# Altium integrated library microbuilder.IntLib: 530 symbols (part 5 of 7)
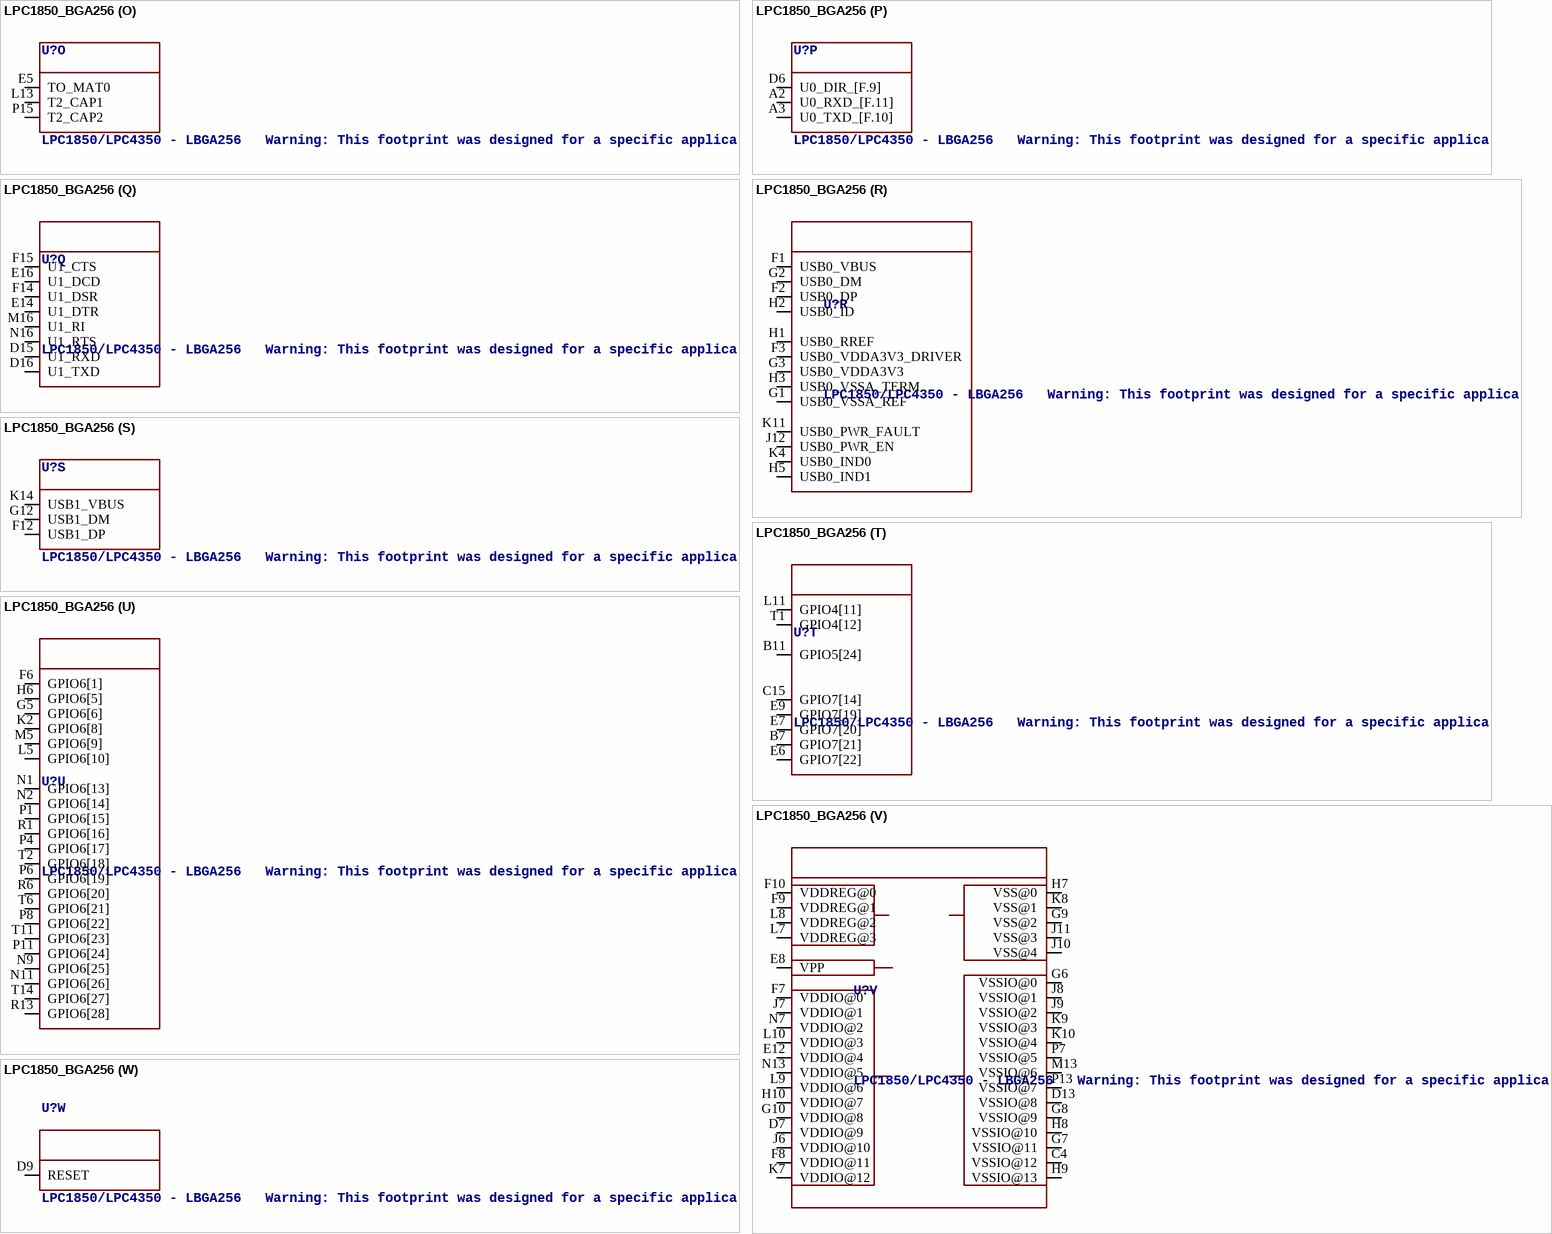
[diagram p56: symbol LPC1850_BGA256]

## LPC1850_BGA256
designator U?, comment LPC1850/LPC4350 - LBGA256   Warning: This footprint was designed for a specific application, and numerous choices have been made concering the PINMUX to make certain peripherals available at the expense of others.  These pin choices may not be appropriate in your own situation (for example, only one set of selection pins is broken out for the EMC rather than all four, although some pins on GPIO6 can be sacrificed to enable another memory device on the EMC using CS2).
footprint LBGA256_1.0MM
part A pins: A4 ADC1_2, A5 ADC1_6, B2 VSSA, B3 ADC1_5, B4 VDDA, B5 ADC1_3, C3 ADC1_1, C5 ADC1_7, C6 ADC1_4, E3 DAC, F5 ADC1_0
part B pins: C16 EMC_A4, D14 EMC_CLK23, E15 EMC_A3, F16 EMC_A2, G13 EMC_A23, G15 EMC_DQMOUT0, G16 EMC_A1, H12 EMC_CKEOUT0, H13 EMC_A14, H14 EMC_A9, H15 EMC_DQMOUT1, H16 EMC_A0, J13 EMC_A15, J15 EMC_DYCS0, J16 EMC_A8, K12 EMC_A21, K13 EMC_A22, K16 EMC_A10, L14 EMC_BLS1, M14 EMC_A20, M15 EMC_A11, N3 EMC_D12, N5 EMC_CLK01, N14 EMC_A19, N15 EMC_A12, P2 EMC_A5, P3 EMC_D13, P5 EMC_OE, P9 EMC_D8, P10 EMC_D9, P14 EMC_A18, P16 EMC_RAS, R2 EMC_A6, R3 EMC_A7, R4 EMC_D14, R5 EMC_CS0, R7 EMC_D1, R8 EMC_D3, R9 EMC_D5, R10 EMC_D6, R11 EMC_D7, R12 EMC_D11, R14 EMC_A16, R16 EMC_CAS, T3 EMC_BLS0, T4 EMC_WE, T5 EMC_D0, T7 EMC_D2, T8 EMC_D15, T9 EMC_D4, T13 EMC_D10, T15 EMC_A17, T16 EMC_A13
part C pins: A1 LCD_VD0_[4.1], A6 LCD_VD13_[B.6], A7 LCD_VD8_[7.5], A12 LCD_VD14_[B.5], A13 LCD_VD20_[B.3], A14 LCD_VD22_[B.1], A16 LCD_VD18_[7.2], B1 LCD_VD1_[4.4], B6 LCD_PWR_[7.7], B12 LCD_VD21_[B.2], B15 LCD_VD23_[B.0], B16 LCD_LE_[7.0], C1 LCD_ENBL_[4.6], C2 LCD_VD2_[4.3], C7 LCD_LP_[7.6], C8 LCD_VD16_[7.4], C13 LCD_VD17_[7.3], C14 LCD_VD19_[7.1], D2 LCD_FP_[4.5], D3 LCD_VD3_[4.2], E2 LCD_VD9_[4.8], G11 LCD_VD15_[B.4], H4 LCD_DCLK_[4.7], J1 LCD_VD6_[8.5], J2 LCD_VD7_[8.4], J3 LCD_VD12_[8.3], K1 LCD_VD4_[8.7], K3 LCD_VD5_[8.6], L2 LCD_VD11_[4.9], M3 LCD_VD10_[4.10]
part D pins: A8 RTCX1, A11 RTC_ALARM, B8 RTCX2, B10 VBAT
part E pins: L1 CGU_OUT0, L12 CGU_OUT1
part F pins: D4 ENET_RX_CLK, E4 ENET_MDC, F4 ENET_TX_EN, G4 ENET_TX_ER, L3 ENET_RXD1, M2 ENET_COL, M6 ENET_RXD2, M7 ENET_CRS, M8 ENET_MDIO, M9 ENET_TXD3, M10 ENET_TXD1, M11 ENET_TX_CLK, N4 ENET_RX_DV, N6 ENET_RX_ER, N8 ENET_RXD3, N10 ENET_TXD2, N12 ENET_TXD0, T12 ENET_RXD0
part G pins: D1 XTAL1, E1 XTAL2, T10 CLKOUT
part H pins: E13 I2C1_SCL, G14 I2C1_SDA, L15 I2C0_SCL, L16 I2C0_SDA
part I pins: D10 I2S0_RX_SCK, F11 I2S0_RX_SDA, F13 I2S0_TX_SCK, L6 I2S0_TX_SDA, M1 I2S0_TX_WS, R15 I2S0_RX_WS
part J pins: J4 TDI, J5 TCK/SWDCLK, K5 TDO/SWO, K6 TMS/SWDIO, L4 DBGEN, M4 TRST
part K pins: A9 WAKEUP0, A10 WAKEUP1, C9 WAKEUP2, D5 NMI_EXT, D8 WAKEUP3
part L pins: H11 QEI_PHA, J14 QEI_IDX, K15 QEI_PHB
part M pins: A15 SPIFI_SIO3, B13 SPIFI_MISO, B14 SPIFI_SCK, C10 SPIFI_CS, C11 SPIFI_MOSI, C12 SPIFI_SIO2
part N pins: D11 SSP0_MISO, D12 SSP0_SCK, E10 SSP0_MOSI, E11 SSP0_SSEL
part O pins: E5 TO_MAT0, L13 T2_CAP1, P15 T2_CAP2
part P pins: A2 U0_RXD_[F.11], A3 U0_TXD_[F.10], D6 U0_DIR_[F.9]
part Q pins: D15 U1_RXD, D16 U1_TXD, E14 U1_DTR, E16 U1_DCD, F14 U1_DSR, F15 U1_CTS, M16 U1_RI, N16 U1_RTS
part R pins: F1 USB0_VBUS, F2 USB0_DP, F3 USB0_VDDA3V3_DRIVER, G1 USB0_VSSA_REF, G2 USB0_DM, G3 USB0_VDDA3V3, H1 USB0_RREF, H2 USB0_ID, H3 USB0_VSSA_TERM, H5 USB0_IND1, J12 USB0_PWR_EN, K4 USB0_IND0, K11 USB0_PWR_FAULT
part S pins: F12 USB1_DP, G12 USB1_DM, K14 USB1_VBUS
part T pins: B7 GPIO7[21], B11 GPIO5[24], C15 GPIO7[14], E6 GPIO7[22], E7 GPIO7[20], E9 GPIO7[19], L11 GPIO4[11], T1 GPIO4[12]
part U pins: F6 GPIO6[1], G5 GPIO6[6], H6 GPIO6[5], K2 GPIO6[8], L5 GPIO6[10], M5 GPIO6[9], N1 GPIO6[13], N2 GPIO6[14], N9 GPIO6[25], N11 GPIO6[26], P1 GPIO6[15], P4 GPIO6[17], P6 GPIO6[19], P8 GPIO6[22], P11 GPIO6[24], R1 GPIO6[16], R6 GPIO6[20], R13 GPIO6[28], T2 GPIO6[18], T6 GPIO6[21], T11 GPIO6[23], T14 GPIO6[27]
part V pins: C4 VSSIO@12 (power), D7 VDDIO@9 (power), D13 VSSIO@8 (power), E8 VPP (power), E12 VDDIO@4 (power), F7 VDDIO@0 (power), F8 VDDIO@11 (power), F9 VDDREG@1 (power), F10 VDDREG@0 (power), G6 VSSIO@0 (power), G7 VSSIO@11 (power), G8 VSSIO@9 (power), G9 VSS@2 (power), G10 VDDIO@8 (power), H7 VSS@0 (power), H8 VSSIO@10 (power), H9 VSSIO@13 (power), H10 VDDIO@7 (power), J6 VDDIO@10 (power), J7 VDDIO@1 (power), J8 VSSIO@1 (power), J9 VSSIO@2 (power), J10 VSS@4 (power), J11 VSS@3 (power), K7 VDDIO@12 (power), K8 VSS@1 (power), K9 VSSIO@3 (power), K10 VSSIO@4 (power), L7 VDDREG@3 (power), L8 VDDREG@2 (power), L9 VDDIO@6 (power), L10 VDDIO@3 (power), M13 VSSIO@6 (power), N7 VDDIO@2 (power), N13 VDDIO@5 (power), P7 VSSIO@5 (power), P13 VSSIO@7 (power)
part W pins: D9 RESET

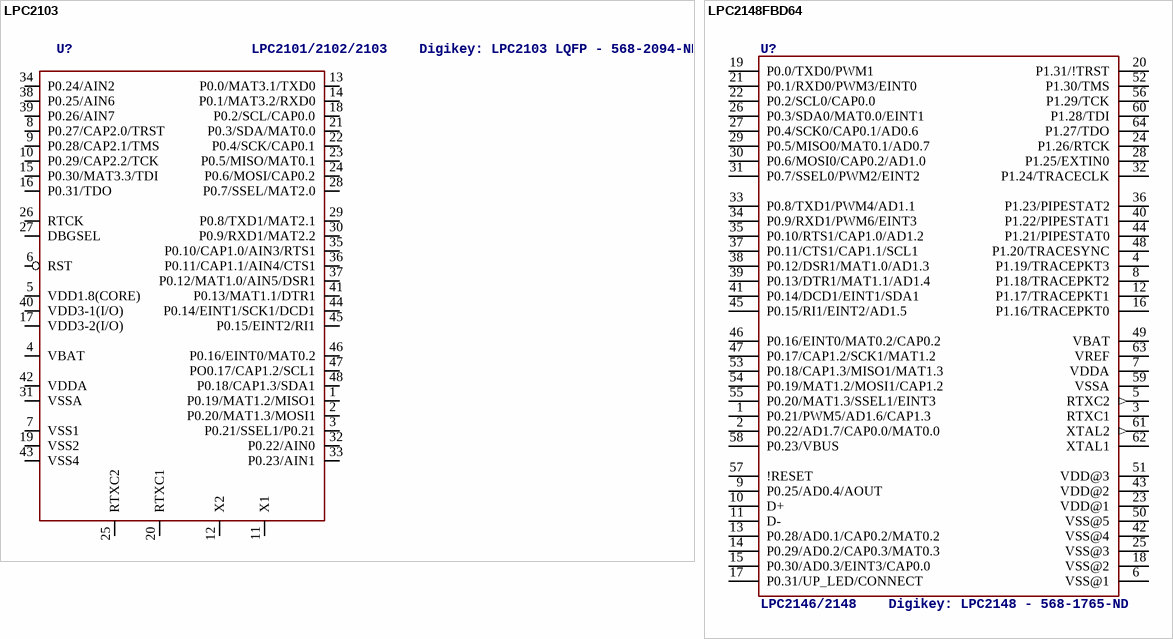
[diagram p39: symbols LPC2103 to LPC2148FBD64]

## LPC2103
designator U?, comment LPC2101/2102/2103    Digikey: LPC2103 LQFP - 568-2094-ND
footprint LQFP48
pins: 1 P0.19/MAT1.2/MISO1, 2 P0.20/MAT1.3/MOSI1, 3 P0.21/SSEL1/P0.21, 4 VBAT, 5 VDD1.8(CORE), 6 RST, 7 VSS1, 8 P0.27/CAP2.0/TRST, 9 P0.28/CAP2.1/TMS, 10 P0.29/CAP2.2/TCK, 11 X1, 12 X2, 13 P0.0/MAT3.1/TXD0, 14 P0.1/MAT3.2/RXD0, 15 P0.30/MAT3.3/TDI, 16 P0.31/TDO, 17 VDD3-2(I/O), 18 P0.2/SCL/CAP0.0, 19 VSS2, 20 RTXC1, 21 P0.3/SDA/MAT0.0, 22 P0.4/SCK/CAP0.1, 23 P0.5/MISO/MAT0.1, 24 P0.6/MOSI/CAP0.2, 25 RTXC2, 26 RTCK, 27 DBGSEL, 28 P0.7/SSEL/MAT2.0, 29 P0.8/TXD1/MAT2.1, 30 P0.9/RXD1/MAT2.2, 31 VSSA, 32 P0.22/AIN0, 33 P0.23/AIN1, 34 P0.24/AIN2, 35 P0.10/CAP1.0/AIN3/RTS1, 36 P0.11/CAP1.1/AIN4/CTS1, 37 P0.12/MAT1.0/AIN5/DSR1, 38 P0.25/AIN6, 39 P0.26/AIN7, 40 VDD3-1(I/O), 41 P0.13/MAT1.1/DTR1, 42 VDDA, 43 VSS4, 44 P0.14/EINT1/SCK1/DCD1, 45 P0.15/EINT2/RI1, 46 P0.16/EINT0/MAT0.2, 47 PO0.17/CAP1.2/SCL1, 48 P0.18/CAP1.3/SDA1

## LPC2148FBD64
designator U?, comment LPC2146/2148    Digikey: LPC2148 - 568-1765-ND
footprint LQFP64
pins: 1 P0.21/PWM5/AD1.6/CAP1.3, 2 P0.22/AD1.7/CAP0.0/MAT0.0, 3 RTXC1, 4 P1.19/TRACEPKT3, 5 RTXC2 (out), 6 VSS@1 (power), 7 VDDA (power), 8 P1.18/TRACEPKT2, 9 P0.25/AD0.4/AOUT, 10 D+, 11 D-, 12 P1.17/TRACEPKT1, 13 P0.28/AD0.1/CAP0.2/MAT0.2, 14 P0.29/AD0.2/CAP0.3/MAT0.3, 15 P0.30/AD0.3/EINT3/CAP0.0, 16 P1.16/TRACEPKT0, 17 P0.31/UP_LED/CONNECT, 18 VSS@2 (power), 19 P0.0/TXD0/PWM1, 20 P1.31/!TRST, 21 P0.1/RXD0/PWM3/EINT0, 22 P0.2/SCL0/CAP0.0, 23 VDD@1 (power), 24 P1.26/RTCK, 25 VSS@3 (power), 26 P0.3/SDA0/MAT0.0/EINT1, 27 P0.4/SCK0/CAP0.1/AD0.6, 28 P1.25/EXTIN0, 29 P0.5/MISO0/MAT0.1/AD0.7, 30 P0.6/MOSI0/CAP0.2/AD1.0, 31 P0.7/SSEL0/PWM2/EINT2, 32 P1.24/TRACECLK, 33 P0.8/TXD1/PWM4/AD1.1, 34 P0.9/RXD1/PWM6/EINT3, 35 P0.10/RTS1/CAP1.0/AD1.2, 36 P1.23/PIPESTAT2, 37 P0.11/CTS1/CAP1.1/SCL1, 38 P0.12/DSR1/MAT1.0/AD1.3, 39 P0.13/DTR1/MAT1.1/AD1.4, 40 P1.22/PIPESTAT1, 41 P0.14/DCD1/EINT1/SDA1, 42 VSS@4 (power), 43 VDD@2 (power), 44 P1.21/PIPESTAT0, 45 P0.15/RI1/EINT2/AD1.5, 46 P0.16/EINT0/MAT0.2/CAP0.2, 47 P0.17/CAP1.2/SCK1/MAT1.2, 48 P1.20/TRACESYNC, 49 VBAT (power), 50 VSS@5 (power), 51 VDD@3 (power), 52 P1.30/TMS, 53 P0.18/CAP1.3/MISO1/MAT1.3, 54 P0.19/MAT1.2/MOSI1/CAP1.2, 55 P0.20/MAT1.3/SSEL1/EINT3, 56 P1.29/TCK, 57 !RESET, 58 P0.23/VBUS, 59 VSSA (power), 60 P1.28/TDI, 61 XTAL2 (out), 62 XTAL1, 63 VREF, 64 P1.27/TDO

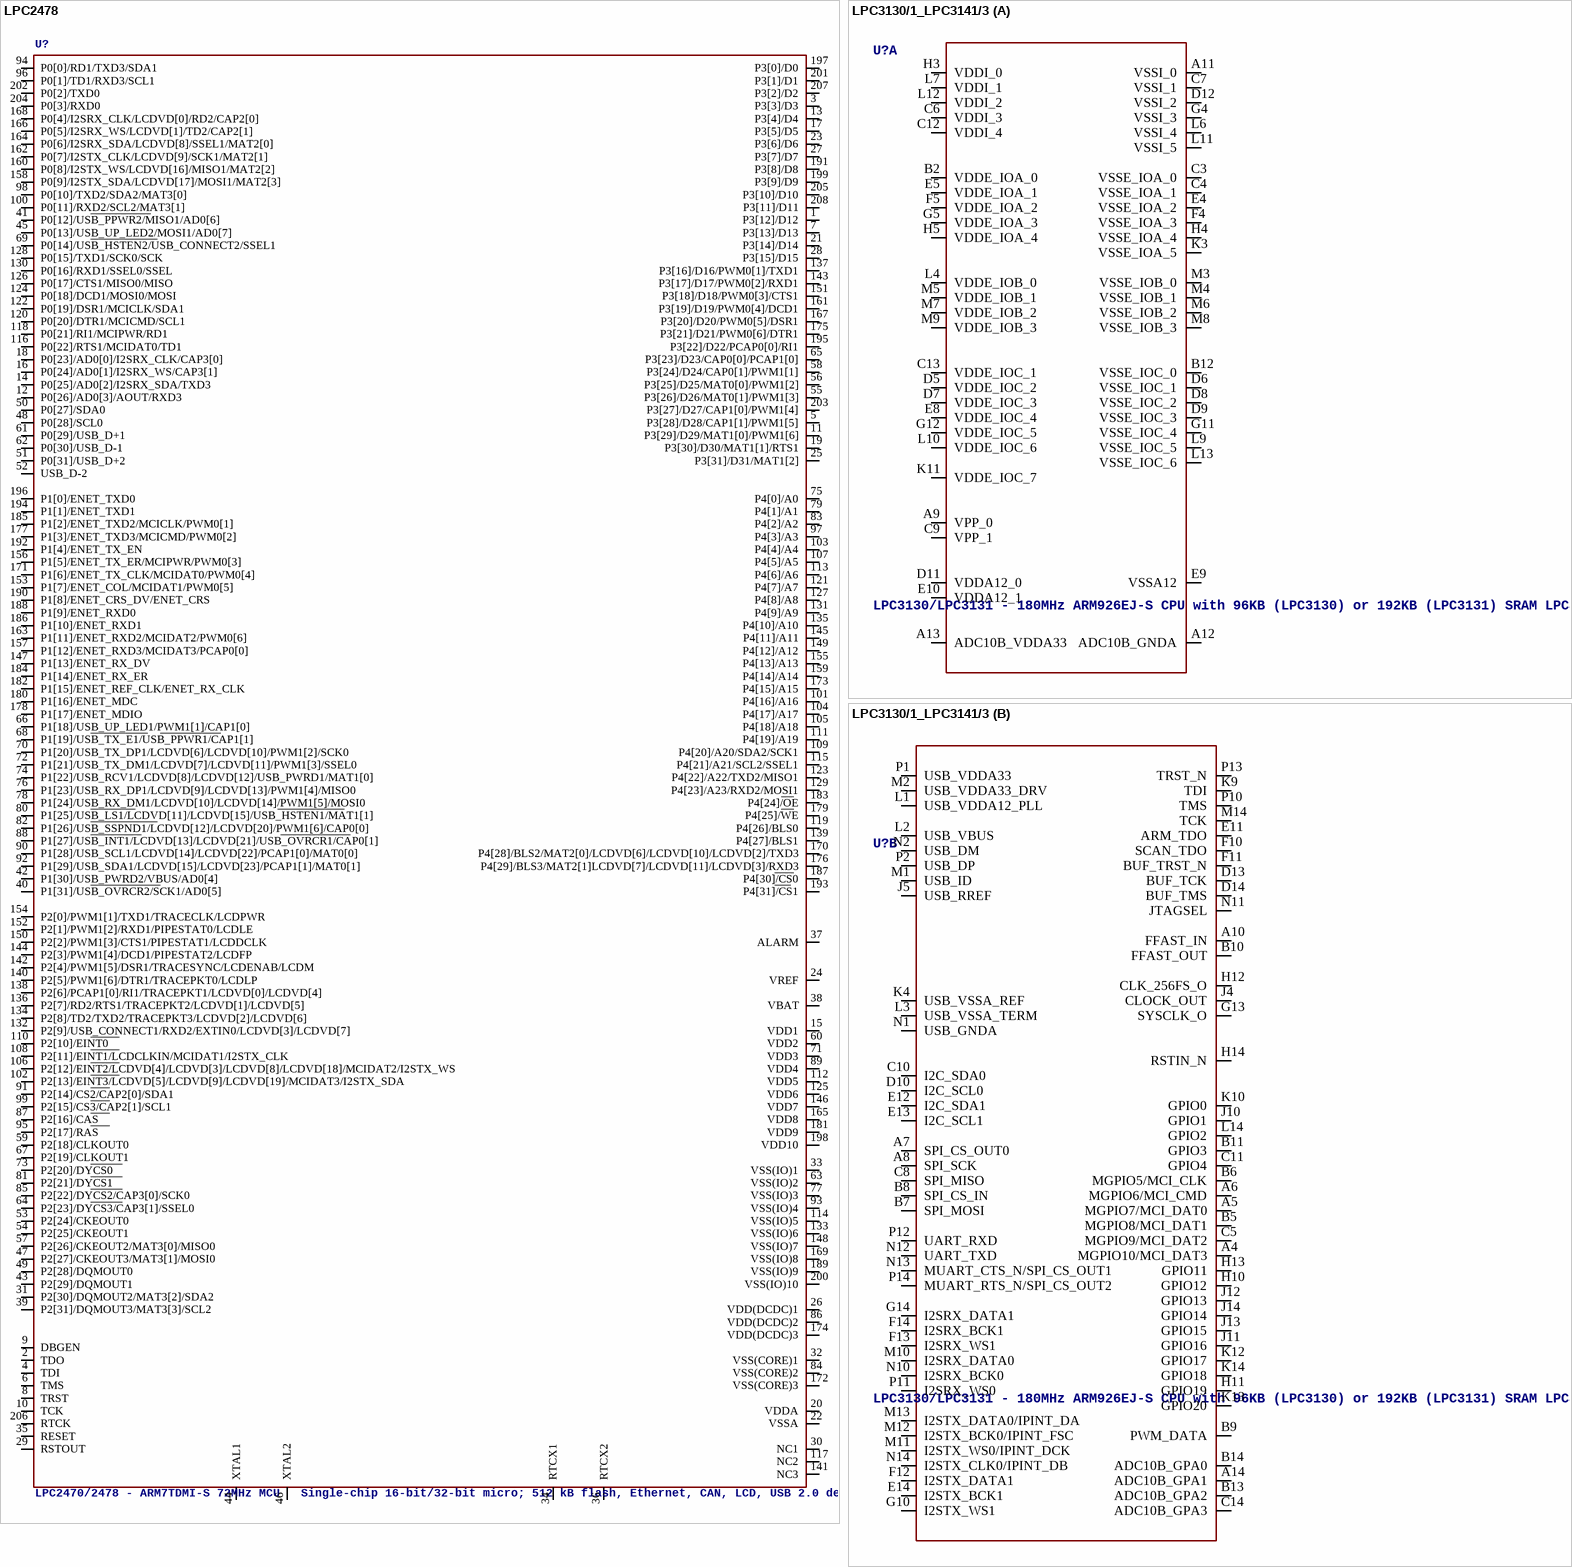
[diagram p40: symbols LPC2478 to LPC3130/1_LPC3141/3]

## LPC2478
designator U?, comment LPC2470/2478 - ARM7TDMI-S 72MHz MCU   Single-chip 16-bit/32-bit micro; 512 kB flash, Ethernet, CAN, LCD, USB 2.0 device/host/OTG, external memory interface   Digikey: 568-4363-ND
footprint LQFP208
pins: 1 P3[12]/D12, 2 TDO, 3 P3[3]/D3, 4 TDI, 5 P3[28]/D28/CAP1[1]/PWM1[5], 6 TMS, 7 P3[13]/D13, 8 TRST, 9 DBGEN, 10 TCK, 11 P3[29]/D29/MAT1[0]/PWM1[6], 12 P0[26]/AD0[3]/AOUT/RXD3, 13 P3[4]/D4, 14 P0[25]/AD0[2]/I2SRX_SDA/TXD3, 15 VDD1, 16 P0[24]/AD0[1]/I2SRX_WS/CAP3[1], 17 P3[5]/D5, 18 P0[23]/AD0[0]/I2SRX_CLK/CAP3[0], 19 P3[30]/D30/MAT1[1]/RTS1, 20 VDDA, 21 P3[14]/D14, 22 VSSA, 23 P3[6]/D6, 24 VREF, 25 P3[31]/D31/MAT1[2], 26 VDD(DCDC)1, 27 P3[7]/D7, 28 P3[15]/D15, 29 RSTOUT, 30 NC1, 31 P2[30]/DQMOUT2/MAT3[2]/SDA2, 32 VSS(CORE)1, 33 VSS(IO)1, 34 RTCX1, 35 RESET, 36 RTCX2, 37 ALARM, 38 VBAT, 39 P2[31]/DQMOUT3/MAT3[3]/SCL2, 40 P1[31]/USB_OVRCR2/SCK1/AD0[5], 41 P0[12]/USB_PPWR2/MISO1/AD0[6], 42 P1[30]/USB_PWRD2/VBUS/AD0[4], 43 P2[29]/DQMOUT1, 44 XTAL1, 45 P0[13]/USB_UP_LED2/MOSI1/AD0[7], 46 XTAL2, 47 P2[27]/CKEOUT3/MAT3[1]/MOSI0, 48 P0[28]/SCL0, 49 P2[28]/DQMOUT0, 50 P0[27]/SDA0, 51 P0[31]/USB_D+2, 52 USB_D-2, 53 P2[24]/CKEOUT0, 54 P2[25]/CKEOUT1, 55 P3[26]/D26/MAT0[1]/PWM1[3], 56 P3[25]/D25/MAT0[0]/PWM1[2], 57 P2[26]/CKEOUT2/MAT3[0]/MISO0, 58 P3[24]/D24/CAP0[1]/PWM1[1], 59 P2[18]/CLKOUT0, 60 VDD2, 61 P0[29]/USB_D+1, 62 P0[30]/USB_D-1, 63 VSS(IO)2, 64 P2[23]/DYCS3/CAP3[1]/SSEL0, 65 P3[23]/D23/CAP0[0]/PCAP1[0], 66 P1[18]/USB_UP_LED1/PWM1[1]/CAP1[0], 67 P2[19]/CLKOUT1, 68 P1[19]/USB_TX_E1/USB_PPWR1/CAP1[1], 69 P0[14]/USB_HSTEN2/USB_CONNECT2/SSEL1, 70 P1[20]/USB_TX_DP1/LCDVD[6]/LCDVD[10]/PWM1[2]/SCK0, 71 VDD3, 72 P1[21]/USB_TX_DM1/LCDVD[7]/LCDVD[11]/PWM1[3]/SSEL0, 73 P2[20]/DYCS0, 74 P1[22]/USB_RCV1/LCDVD[8]/LCDVD[12]/USB_PWRD1/MAT1[0], 75 P4[0]/A0, 76 P1[23]/USB_RX_DP1/LCDVD[9]/LCDVD[13]/PWM1[4]/MISO0, 77 VSS(IO)3, 78 P1[24]/USB_RX_DM1/LCDVD[10]/LCDVD[14]/PWM1[5]/MOSI0, 79 P4[1]/A1, 80 P1[25]/USB_LS1/LCDVD[11]/LCDVD[15]/USB_HSTEN1/MAT1[1], 81 P2[21]/DYCS1, 82 P1[26]/USB_SSPND1/LCDVD[12]/LCDVD[20]/PWM1[6]/CAP0[0], 83 P4[2]/A2, 84 VSS(CORE)2, 85 P2[22]/DYCS2/CAP3[0]/SCK0, 86 VDD(DCDC)2, 87 P2[16]/CAS, 88 P1[27]/USB_INT1/LCDVD[13]/LCDVD[21]/USB_OVRCR1/CAP0[1], 89 VDD4, 90 P1[28]/USB_SCL1/LCDVD[14]/LCDVD[22]/PCAP1[0]/MAT0[0], 91 P2[14]/CS2/CAP2[0]/SDA1, 92 P1[29]/USB_SDA1/LCDVD[15]/LCDVD[23]/PCAP1[1]/MAT0[1], 93 VSS(IO)4, 94 P0[0]/RD1/TXD3/SDA1, 95 P2[17]/RAS, 96 P0[1]/TD1/RXD3/SCL1, 97 P4[3]/A3, 98 P0[10]/TXD2/SDA2/MAT3[0], 99 P2[15]/CS3/CAP2[1]/SCL1, 100 P0[11]/RXD2/SCL2/MAT3[1], 101 P4[16]/A16, 102 P2[13]/EINT3/LCDVD[5]/LCDVD[9]/LCDVD[19]/MCIDAT3/I2STX_SDA, 103 P4[4]/A4, 104 P4[17]/A17, 105 P4[18]/A18, 106 P2[12]/EINT2/LCDVD[4]/LCDVD[3]/LCDVD[8]/LCDVD[18]/MCIDAT2/I2STX_WS, 107 P4[5]/A5, 108 P2[11]/EINT1/LCDCLKIN/MCIDAT1/I2STX_CLK, 109 P4[20]/A20/SDA2/SCK1, 110 P2[10]/EINT0, 111 P4[19]/A19, 112 VDD5, 113 P4[6]/A6, 114 VSS(IO)5, 115 P4[21]/A21/SCL2/SSEL1, 116 P0[22]/RTS1/MCIDAT0/TD1, 117 NC2, 118 P0[21]/RI1/MCIPWR/RD1, 119 P4[26]/BLS0, 120 P0[20]/DTR1/MCICMD/SCL1, 121 P4[7]/A7, 122 P0[19]/DSR1/MCICLK/SDA1, 123 P4[22]/A22/TXD2/MISO1, 124 P0[18]/DCD1/MOSI0/MOSI, 125 VDD6, 126 P0[17]/CTS1/MISO0/MISO, 127 P4[8]/A8, 128 P0[15]/TXD1/SCK0/SCK, 129 P4[23]/A23/RXD2/MOSI1, 130 P0[16]/RXD1/SSEL0/SSEL, 131 P4[9]/A9, 132 P2[9]/USB_CONNECT1/RXD2/EXTIN0/LCDVD[3]/LCDVD[7], 133 VSS(IO)6, 134 P2[8]/TD2/TXD2/TRACEPKT3/LCDVD[2]/LCDVD[6], 135 P4[10]/A10, 136 P2[7]/RD2/RTS1/TRACEPKT2/LCDVD[1]/LCDVD[5], 137 P3[16]/D16/PWM0[1]/TXD1, 138 P2[6]/PCAP1[0]/RI1/TRACEPKT1/LCDVD[0]/LCDVD[4], 139 P4[27]/BLS1, 140 P2[5]/PWM1[6]/DTR1/TRACEPKT0/LCDLP, 141 NC3, 142 P2[4]/PWM1[5]/DSR1/TRACESYNC/LCDENAB/LCDM, 143 P3[17]/D17/PWM0[2]/RXD1, 144 P2[3]/PWM1[4]/DCD1/PIPESTAT2/LCDFP, 145 P4[11]/A11, 146 VDD7, 147 P1[13]/ENET_RX_DV, 148 VSS(IO)7, 149 P4[12]/A12, 150 P2[2]/PWM1[3]/CTS1/PIPESTAT1/LCDDCLK, 151 P3[18]/D18/PWM0[3]/CTS1, 152 P2[1]/PWM1[2]/RXD1/PIPESTAT0/LCDLE, 153 P1[7]/ENET_COL/MCIDAT1/PWM0[5], 154 P2[0]/PWM1[1]/TXD1/TRACECLK/LCDPWR, 155 P4[13]/A13, 156 P1[5]/ENET_TX_ER/MCIPWR/PWM0[3], 157 P1[12]/ENET_RXD3/MCIDAT3/PCAP0[0], 158 P0[9]/I2STX_SDA/LCDVD[17]/MOSI1/MAT2[3], 159 P4[14]/A14, 160 P0[8]/I2STX_WS/LCDVD[16]/MISO1/MAT2[2], 161 P3[19]/D19/PWM0[4]/DCD1, 162 P0[7]/I2STX_CLK/LCDVD[9]/SCK1/MAT2[1], 163 P1[11]/ENET_RXD2/MCIDAT2/PWM0[6], 164 P0[6]/I2SRX_SDA/LCDVD[8]/SSEL1/MAT2[0], 165 VDD8, 166 P0[5]/I2SRX_WS/LCDVD[1]/TD2/CAP2[1], 167 P3[20]/D20/PWM0[5]/DSR1, 168 P0[4]/I2SRX_CLK/LCDVD[0]/RD2/CAP2[0], 169 VSS(IO)8, 170 P4[28]/BLS2/MAT2[0]/LCDVD[6]/LCDVD[10]/LCDVD[2]/TXD3, 171 P1[6]/ENET_TX_CLK/MCIDAT0/PWM0[4], 172 VSS(CORE)3, 173 P4[15]/A15, 174 VDD(DCDC)3, 175 P3[21]/D21/PWM0[6]/DTR1, 176 P4[29]/BLS3/MAT2[1]LCDVD[7]/LCDVD[11]/LCDVD[3]/RXD3, 177 P1[3]/ENET_TXD3/MCICMD/PWM0[2], 178 P1[17]/ENET_MDIO, 179 P4[25]/WE, 180 P1[16]/ENET_MDC, 181 VDD9, 182 P1[15]/ENET_REF_CLK/ENET_RX_CLK, 183 P4[24]/OE, 184 P1[14]/ENET_RX_ER, 185 P1[2]/ENET_TXD2/MCICLK/PWM0[1], 186 P1[10]/ENET_RXD1, 187 P4[30]/CS0, 188 P1[9]/ENET_RXD0, 189 VSS(IO)9, 190 P1[8]/ENET_CRS_DV/ENET_CRS, 191 P3[8]/D8, 192 P1[4]/ENET_TX_EN, 193 P4[31]/CS1, 194 P1[1]/ENET_TXD1, 195 P3[22]/D22/PCAP0[0]/RI1, 196 P1[0]/ENET_TXD0, 197 P3[0]/D0, 198 VDD10, 199 P3[9]/D9, 200 VSS(IO)10, 201 P3[1]/D1, 202 P0[2]/TXD0, 203 P3[27]/D27/CAP1[0]/PWM1[4], 204 P0[3]/RXD0, 205 P3[10]/D10, 206 RTCK, 207 P3[2]/D2, 208 P3[11]/D11

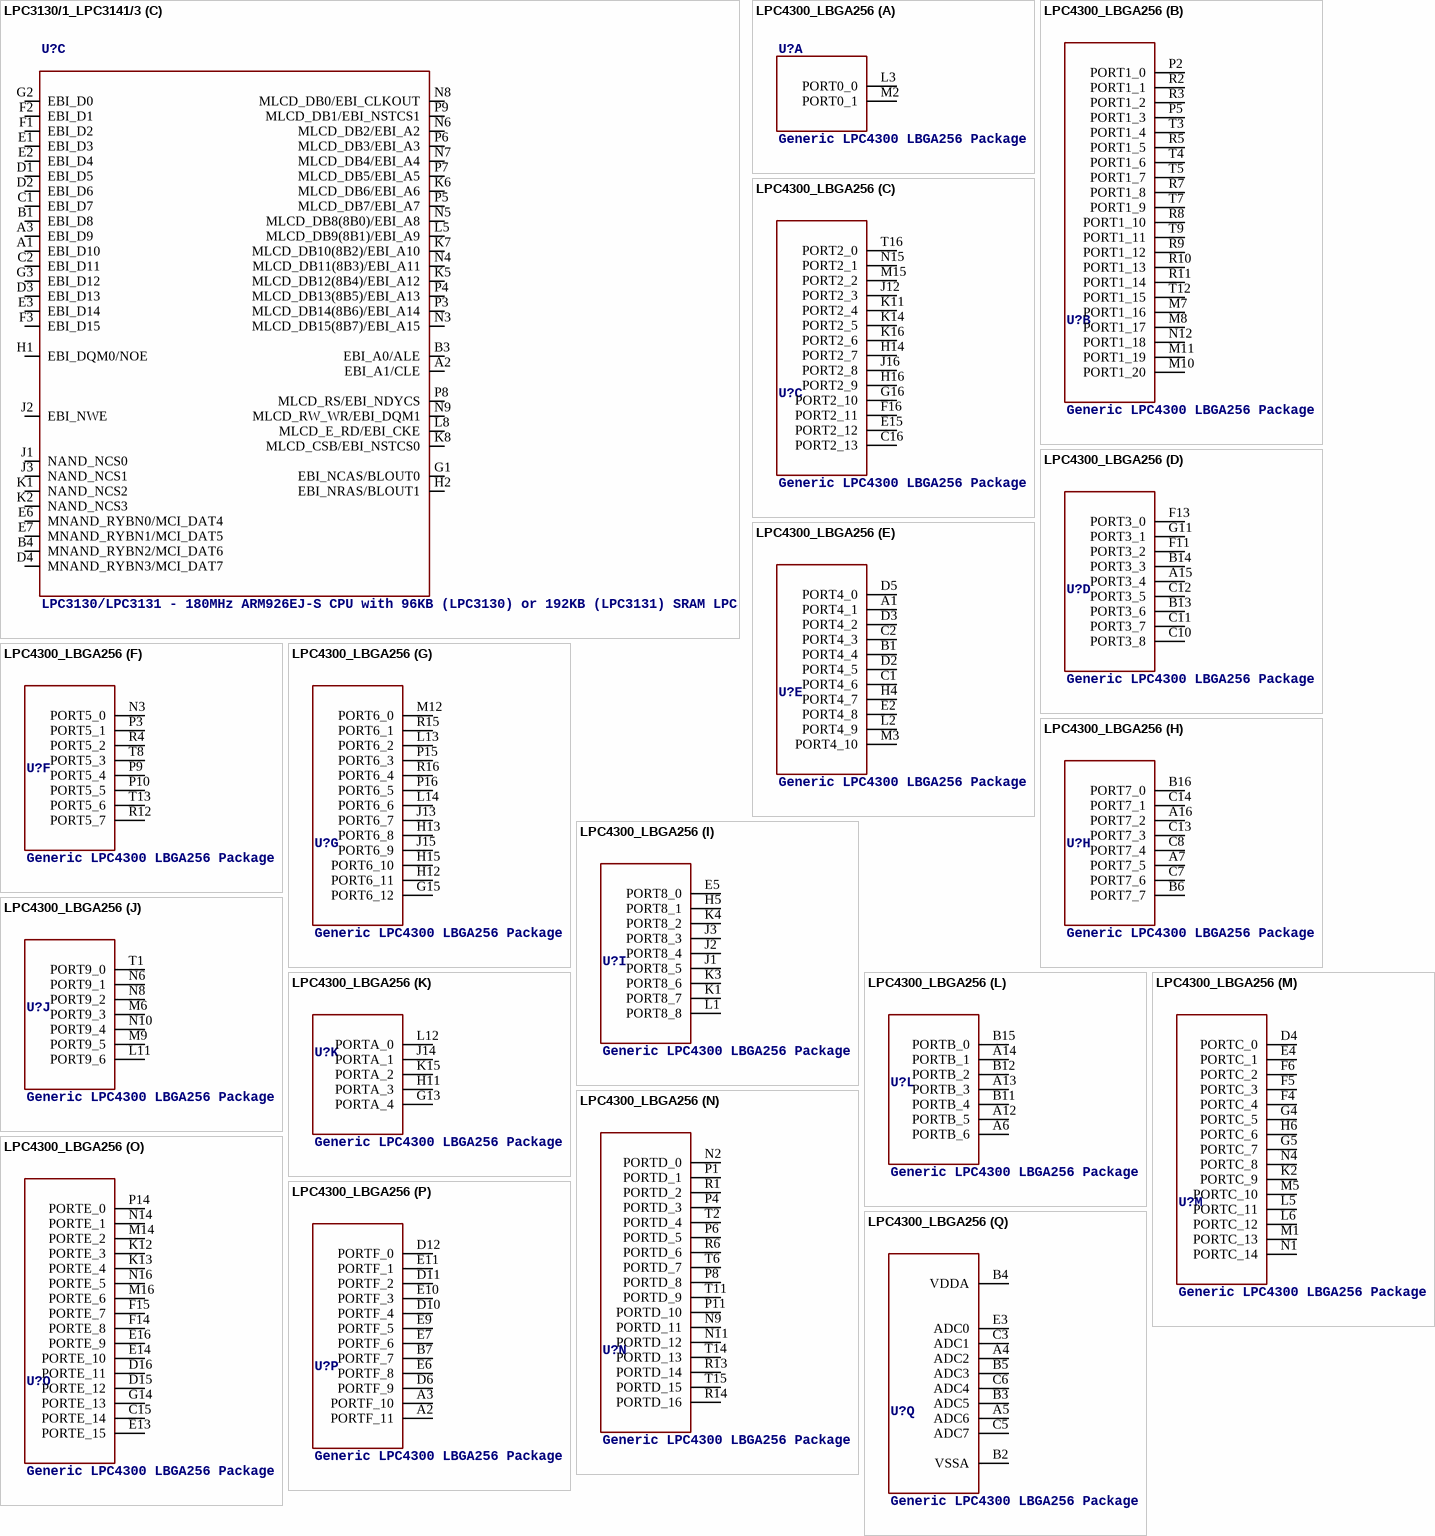
[diagram p41: symbols LPC3130/1_LPC3141/3 to LPC4300_LBGA256]

## LPC3130/1_LPC3141/3
designator U?, comment LPC3130/LPC3131 - 180MHz ARM926EJ-S CPU with 96KB (LPC3130) or 192KB (LPC3131) SRAM LPC3141 - 270MHz ARM926EJ-S CPU with 192KB SRAM LPC3143 - 270MHz ARM926EJ-S CPU with 192KB SRAM and AES decryption engine/128-bit unique ID (LPC3143 only)
footprint TFBGA180_0.8
part A pins: A9 VPP_0 (power), A11 VSSI_0 (power), A12 ADC10B_GNDA (power), A13 ADC10B_VDDA33 (power), B2 VDDE_IOA_0 (power), B12 VSSE_IOC_0 (power), C3 VSSE_IOA_0 (power), C4 VSSE_IOA_1 (power), C6 VDDI_3 (power), C7 VSSI_1 (power), C9 VPP_1 (power), C12 VDDI_4 (power), C13 VDDE_IOC_1 (power), D5 VDDE_IOC_2 (power), D6 VSSE_IOC_1 (power), D7 VDDE_IOC_3 (power), D8 VSSE_IOC_2 (power), D9 VSSE_IOC_3 (power), D11 VDDA12_0 (power), D12 VSSI_2 (power), E4 VSSE_IOA_2 (power), E5 VDDE_IOA_1 (power), E8 VDDE_IOC_4 (power), E9 VSSA12 (power), E10 VDDA12_1 (power), F4 VSSE_IOA_3 (power), F5 VDDE_IOA_2 (power), G4 VSSI_3 (power), G5 VDDE_IOA_3 (power), G11 VSSE_IOC_4 (power), G12 VDDE_IOC_5 (power), H3 VDDI_0 (power), H4 VSSE_IOA_4 (power), H5 VDDE_IOA_4 (power), K3 VSSE_IOA_5 (power), K11 VDDE_IOC_7 (power), L4 VDDE_IOB_0 (power), L6 VSSI_4 (power), L7 VDDI_1 (power), L9 VSSE_IOC_5 (power), L10 VDDE_IOC_6 (power), L11 VSSI_5 (power), L12 VDDI_2 (power), L13 VSSE_IOC_6 (power), M3 VSSE_IOB_0 (power), M4 VSSE_IOB_1 (power), M5 VDDE_IOB_1 (power), M6 VSSE_IOB_2 (power), M7 VDDE_IOB_2 (power), M8 VSSE_IOB_3 (power), M9 VDDE_IOB_3 (power)
part B pins: A4 MGPIO10/MCI_DAT3, A5 MGPIO7/MCI_DAT0, A6 MGPIO6/MCI_CMD, A7 SPI_CS_OUT0, A8 SPI_SCK, A10 FFAST_IN, A14 ADC10B_GPA1, B5 MGPIO8/MCI_DAT1, B6 MGPIO5/MCI_CLK, B7 SPI_MOSI, B8 SPI_CS_IN, B9 PWM_DATA, B10 FFAST_OUT, B11 GPIO3, B13 ADC10B_GPA2, B14 ADC10B_GPA0, C5 MGPIO9/MCI_DAT2, C8 SPI_MISO, C10 I2C_SDA0, C11 GPIO4, C14 ADC10B_GPA3, D10 I2C_SCL0, D13 BUF_TCK, D14 BUF_TMS, E11 ARM_TDO, E12 I2C_SDA1, E13 I2C_SCL1, E14 I2STX_BCK1, F10 SCAN_TDO, F11 BUF_TRST_N, F12 I2STX_DATA1, F13 I2SRX_WS1, F14 I2SRX_BCK1, G10 I2STX_WS1, G13 SYSCLK_O, G14 I2SRX_DATA1, H10 GPIO12, H11 GPIO19, H12 CLK_256FS_O, H13 GPIO11, H14 RSTIN_N, J4 CLOCK_OUT, J5 USB_RREF, J10 GPIO1, J11 GPIO16, J12 GPIO13, J13 GPIO15, J14 GPIO14, K4 USB_VSSA_REF, K9 TDI, K10 GPIO0, K12 GPIO17, K13 GPIO20, K14 GPIO18, L1 USB_VDDA12_PLL, L2 USB_VBUS, L3 USB_VSSA_TERM, L14 GPIO2, M1 USB_ID, M2 USB_VDDA33_DRV, M10 I2SRX_DATA0, M11 I2STX_WS0/IPINT_DCK, M12 I2STX_BCK0/IPINT_FSC, M13 I2STX_DATA0/IPINT_DA, M14 TCK, N1 USB_GNDA, N2 USB_DM, N10 I2SRX_BCK0, N11 JTAGSEL, N12 UART_TXD, N13 MUART_CTS_N/SPI_CS_OUT1, N14 I2STX_CLK0/IPINT_DB, P1 USB_VDDA33, P2 USB_DP, P10 TMS, P11 I2SRX_WS0, P12 UART_RXD, P13 TRST_N, P14 MUART_RTS_N/SPI_CS_OUT2
part C pins: A1 EBI_D10, A2 EBI_A1/CLE, A3 EBI_D9, B1 EBI_D8, B3 EBI_A0/ALE, B4 MNAND_RYBN2/MCI_DAT6, C1 EBI_D7, C2 EBI_D11, D1 EBI_D5, D2 EBI_D6, D3 EBI_D13, D4 MNAND_RYBN3/MCI_DAT7, E1 EBI_D3, E2 EBI_D4, E3 EBI_D14, E6 MNAND_RYBN0/MCI_DAT4, E7 MNAND_RYBN1/MCI_DAT5, F1 EBI_D2, F2 EBI_D1, F3 EBI_D15, G1 EBI_NCAS/BLOUT0, G2 EBI_D0, G3 EBI_D12, H1 EBI_DQM0/NOE, H2 EBI_NRAS/BLOUT1, J1 NAND_NCS0, J2 EBI_NWE, J3 NAND_NCS1, K1 NAND_NCS2, K2 NAND_NCS3, K5 MLCD_DB12(8B4)/EBI_A12, K6 MLCD_DB6/EBI_A6, K7 MLCD_DB10(8B2)/EBI_A10, K8 MLCD_CSB/EBI_NSTCS0, L5 MLCD_DB9(8B1)/EBI_A9, L8 MLCD_E_RD/EBI_CKE, N3 MLCD_DB15(8B7)/EBI_A15, N4 MLCD_DB11(8B3)/EBI_A11, N5 MLCD_DB8(8B0)/EBI_A8, N6 MLCD_DB2/EBI_A2, N7 MLCD_DB4/EBI_A4, N8 MLCD_DB0/EBI_CLKOUT, N9 MLCD_RW_WR/EBI_DQM1, P3 MLCD_DB14(8B6)/EBI_A14, P4 MLCD_DB13(8B5)/EBI_A13, P5 MLCD_DB7/EBI_A7, P6 MLCD_DB3/EBI_A3, P7 MLCD_DB5/EBI_A5, P8 MLCD_RS/EBI_NDYCS, P9 MLCD_DB1/EBI_NSTCS1

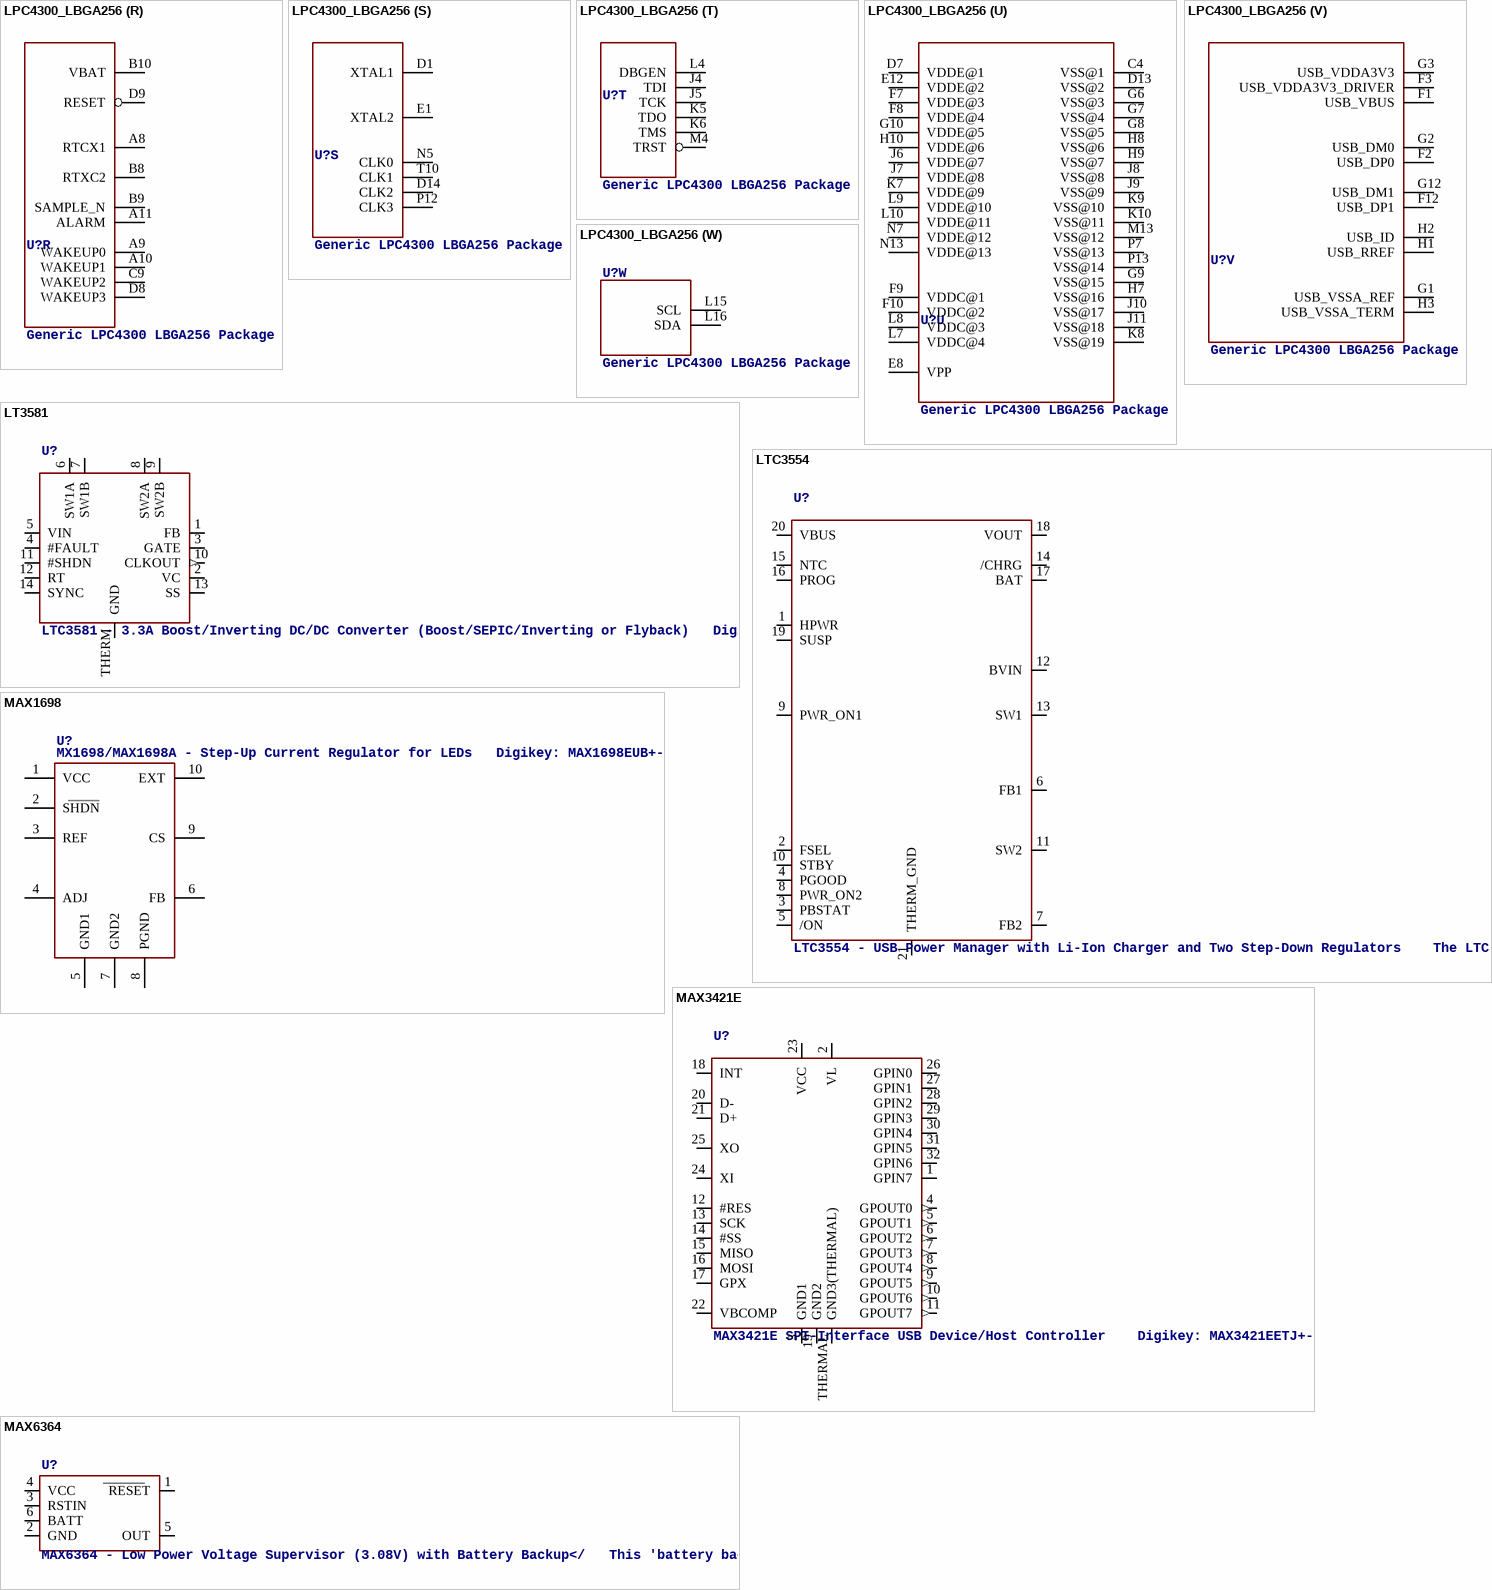
[diagram p42: symbols LPC4300_LBGA256 to MAX6364]

## LPC4300_LBGA256
designator U?, comment Generic LPC4300 LBGA256 Package
footprint LBGA256_1.0MM
part A pins: L3 PORT0_0, M2 PORT0_1
part B pins: M7 PORT1_16, M8 PORT1_17, M10 PORT1_20, M11 PORT1_19, N12 PORT1_18, P2 PORT1_0, P5 PORT1_3, R2 PORT1_1, R3 PORT1_2, R5 PORT1_5, R7 PORT1_8, R8 PORT1_10, R9 PORT1_12, R10 PORT1_13, R11 PORT1_14, T3 PORT1_4, T4 PORT1_6, T5 PORT1_7, T7 PORT1_9, T9 PORT1_11, T12 PORT1_15
part C pins: C16 PORT2_13, E15 PORT2_12, F16 PORT2_11, G16 PORT2_10, H14 PORT2_7, H16 PORT2_9, J12 PORT2_3, J16 PORT2_8, K11 PORT2_4, K14 PORT2_5, K16 PORT2_6, M15 PORT2_2, N15 PORT2_1, T16 PORT2_0
part D pins: A15 PORT3_4, B13 PORT3_6, B14 PORT3_3, C10 PORT3_8, C11 PORT3_7, C12 PORT3_5, F11 PORT3_2, F13 PORT3_0, G11 PORT3_1
part E pins: A1 PORT4_1, B1 PORT4_4, C1 PORT4_6, C2 PORT4_3, D2 PORT4_5, D3 PORT4_2, D5 PORT4_0, E2 PORT4_8, H4 PORT4_7, L2 PORT4_9, M3 PORT4_10
part F pins: N3 PORT5_0, P3 PORT5_1, P9 PORT5_4, P10 PORT5_5, R4 PORT5_2, R12 PORT5_7, T8 PORT5_3, T13 PORT5_6
part G pins: G15 PORT6_12, H12 PORT6_11, H13 PORT6_8, H15 PORT6_10, J13 PORT6_7, J15 PORT6_9, L13 PORT6_2, L14 PORT6_6, M12 PORT6_0, P15 PORT6_3, P16 PORT6_5, R15 PORT6_1, R16 PORT6_4
part H pins: A7 PORT7_5, A16 PORT7_2, B6 PORT7_7, B16 PORT7_0, C7 PORT7_6, C8 PORT7_4, C13 PORT7_3, C14 PORT7_1
part I pins: E5 PORT8_0, H5 PORT8_1, J1 PORT8_5, J2 PORT8_4, J3 PORT8_3, K1 PORT8_7, K3 PORT8_6, K4 PORT8_2, L1 PORT8_8 (oe)
part J pins: L11 PORT9_6, M6 PORT9_3, M9 PORT9_5, N6 PORT9_1, N8 PORT9_2, N10 PORT9_4, T1 PORT9_0
part K pins: G13 PORTA_4, H11 PORTA_3, J14 PORTA_1, K15 PORTA_2, L12 PORTA_0
part L pins: A6 PORTB_6, A12 PORTB_5, A13 PORTB_3, A14 PORTB_1, B11 PORTB_4, B12 PORTB_2, B15 PORTB_0
part M pins: D4 PORTC_0, E4 PORTC_1, F4 PORTC_4, F5 PORTC_3, F6 PORTC_2, G4 PORTC_5, G5 PORTC_7, H6 PORTC_6, K2 PORTC_9, L5 PORTC_11, L6 PORTC_12, M1 PORTC_13, M5 PORTC_10, N1 PORTC_14, N4 PORTC_8
part N pins: N2 PORTD_0, N9 PORTD_11, N11 PORTD_12, P1 PORTD_1, P4 PORTD_3, P6 PORTD_5, P8 PORTD_8, P11 PORTD_10, R1 PORTD_2, R6 PORTD_6, R13 PORTD_14, R14 PORTD_16, T2 PORTD_4, T6 PORTD_7, T11 PORTD_9, T14 PORTD_13, T15 PORTD_15
part O pins: C15 PORTE_14, D15 PORTE_12, D16 PORTE_11, E13 PORTE_15, E14 PORTE_10, E16 PORTE_9, F14 PORTE_8, F15 PORTE_7, G14 PORTE_13, K12 PORTE_3, K13 PORTE_4, M14 PORTE_2, M16 PORTE_6, N14 PORTE_1, N16 PORTE_5, P14 PORTE_0
part P pins: A2 PORTF_11, A3 PORTF_10, B7 PORTF_7, D6 PORTF_9, D10 PORTF_4, D11 PORTF_2, D12 PORTF_0, E6 PORTF_8, E7 PORTF_6, E9 PORTF_5, E10 PORTF_3, E11 PORTF_1
part Q pins: A4 ADC2, A5 ADC6, B2 VSSA (oe), B3 ADC5, B4 VDDA (oe), B5 ADC3, C3 ADC1, C5 ADC7, C6 ADC4, E3 ADC0
part R pins: A8 RTCX1, A9 WAKEUP0, A10 WAKEUP1, A11 ALARM, B8 RTXC2, B9 SAMPLE_N, B10 VBAT, C9 WAKEUP2, D8 WAKEUP3, D9 RESET
part S pins: D1 XTAL1, D14 CLK2, E1 XTAL2, N5 CLK0, P12 CLK3, T10 CLK1
part T pins: J4 TDI, J5 TCK, K5 TDO, K6 TMS, L4 DBGEN, M4 TRST
part U pins: C4 VSS@1 (oe), D7 VDDE@1 (oe), D13 VSS@2 (oe), E8 VPP (oe), E12 VDDE@2 (oe), F7 VDDE@3 (oe), F8 VDDE@4 (oe), F9 VDDC@1 (oe), F10 VDDC@2 (oe), G6 VSS@3 (oe), G7 VSS@4 (oe), G8 VSS@5 (oe), G9 VSS@15 (oe), G10 VDDE@5 (oe), H7 VSS@16 (oe), H8 VSS@6 (oe), H9 VSS@7 (oe), H10 VDDE@6 (oe), J6 VDDE@7 (oe), J7 VDDE@8 (oe), J8 VSS@8 (oe), J9 VSS@9 (oe), J10 VSS@17 (oe), J11 VSS@18 (oe), K7 VDDE@9 (oe), K8 VSS@19 (oe), K9 VSS@10 (oe), K10 VSS@11 (oe), L7 VDDC@4 (oe), L8 VDDC@3 (oe), L9 VDDE@10 (oe), L10 VDDE@11 (oe), M13 VSS@12 (oe), N7 VDDE@12 (oe), N13 VDDE@13 (oe), P7 VSS@13 (oe), P13 VSS@14 (oe)
part V pins: F1 USB_VBUS, F2 USB_DP0, F3 USB_VDDA3V3_DRIVER, F12 USB_DP1, G1 USB_VSSA_REF, G2 USB_DM0, G3 USB_VDDA3V3, G12 USB_DM1, H1 USB_RREF, H2 USB_ID, H3 USB_VSSA_TERM
part W pins: L15 SCL (oe), L16 SDA (oe)

## LT3581
designator U?, comment LTC3581 - 3.3A Boost/Inverting DC/DC Converter (Boost/SEPIC/Inverting or Flyback)   Digikey: LT3581EDE#PBF-ND
footprint DFN14_4X3MM
pins: 1 FB, 2 VC, 3 GATE, 4 #FAULT, 5 VIN (power), 6 SW1A (power), 7 SW1B (power), 8 SW2A (power), 9 SW2B (power), 10 CLKOUT (out), 11 #SHDN, 12 RT, 13 SS, 14 SYNC, THERM GND (power)

## LTC3554
designator U?, comment LTC3554 - USB Power Manager with Li-Ion Charger and Two Step-Down Regulators    The LTC3554 is a micropower, highly integrated power management and battery charger IC for single-cell Li-Ion/Polymer battery applications.  The LTC3554 also includes two synchronous step-down switching regulators as well as a pushbutton controller.
footprint QFN20_3MM
pins: 1 HPWR, 2 FSEL, 3 PBSTAT, 4 PGOOD, 5 /ON, 6 FB1, 7 FB2, 8 PWR_ON2, 9 PWR_ON1, 10 STBY, 11 SW2, 12 BVIN, 13 SW1, 14 /CHRG, 15 NTC, 16 PROG, 17 BAT, 18 VOUT, 19 SUSP, 20 VBUS, 21 THERM_GND

## MAX1698
designator U?, comment MX1698/MAX1698A - Step-Up Current Regulator for LEDs   Digikey: MAX1698EUB+-ND
footprint UMAX10
pins: 1 VCC, 2 SHDN, 3 REF, 4 ADJ, 5 GND1, 6 FB, 7 GND2, 8 PGND, 9 CS, 10 EXT

## MAX3421E
designator U?, comment MAX3421E SPI-Interface USB Device/Host Controller    Digikey: MAX3421EETJ+-ND
footprint HVQFN32-5X5_3MMTHERMAL
pins: 1 GPIN7, 2 VL (power), 3 GND1 (power), 4 GPOUT0 (out), 5 GPOUT1 (out), 6 GPOUT2 (out), 7 GPOUT3 (out), 8 GPOUT4 (out), 9 GPOUT5 (out), 10 GPOUT6 (out), 11 GPOUT7 (out), 12 #RES, 13 SCK, 14 #SS, 15 MISO, 16 MOSI, 17 GPX, 18 INT, 19 GND2 (power), 20 D-, 21 D+, 22 VBCOMP, 23 VCC (power), 24 XI, 25 XO, 26 GPIN0, 27 GPIN1, 28 GPIN2, 29 GPIN3, 30 GPIN4, 31 GPIN5, 32 GPIN6, THERMAL GND3(THERMAL) (power)

## MAX6364
designator U?, comment MAX6364 - Low Power Voltage Supervisor (3.08V) with Battery Backup</   This 'battery backup supervisor' will supply up to 150mA of current from VCC.  If VCC ever drops below the 3.08V threshold, the supervisor will automatically switch the power supply to battery power, allowing you to safely 'fall-back' on a secondary power source for critical applications, or where you know that the main power suppy is inherently volatile (solar panels, etc.)   Digikey: MAX6364LUT31+TCT-ND
footprint SOT23-6
pins: 1 RESET, 2 GND (power), 3 RSTIN, 4 VCC (power), 5 OUT, 6 BATT

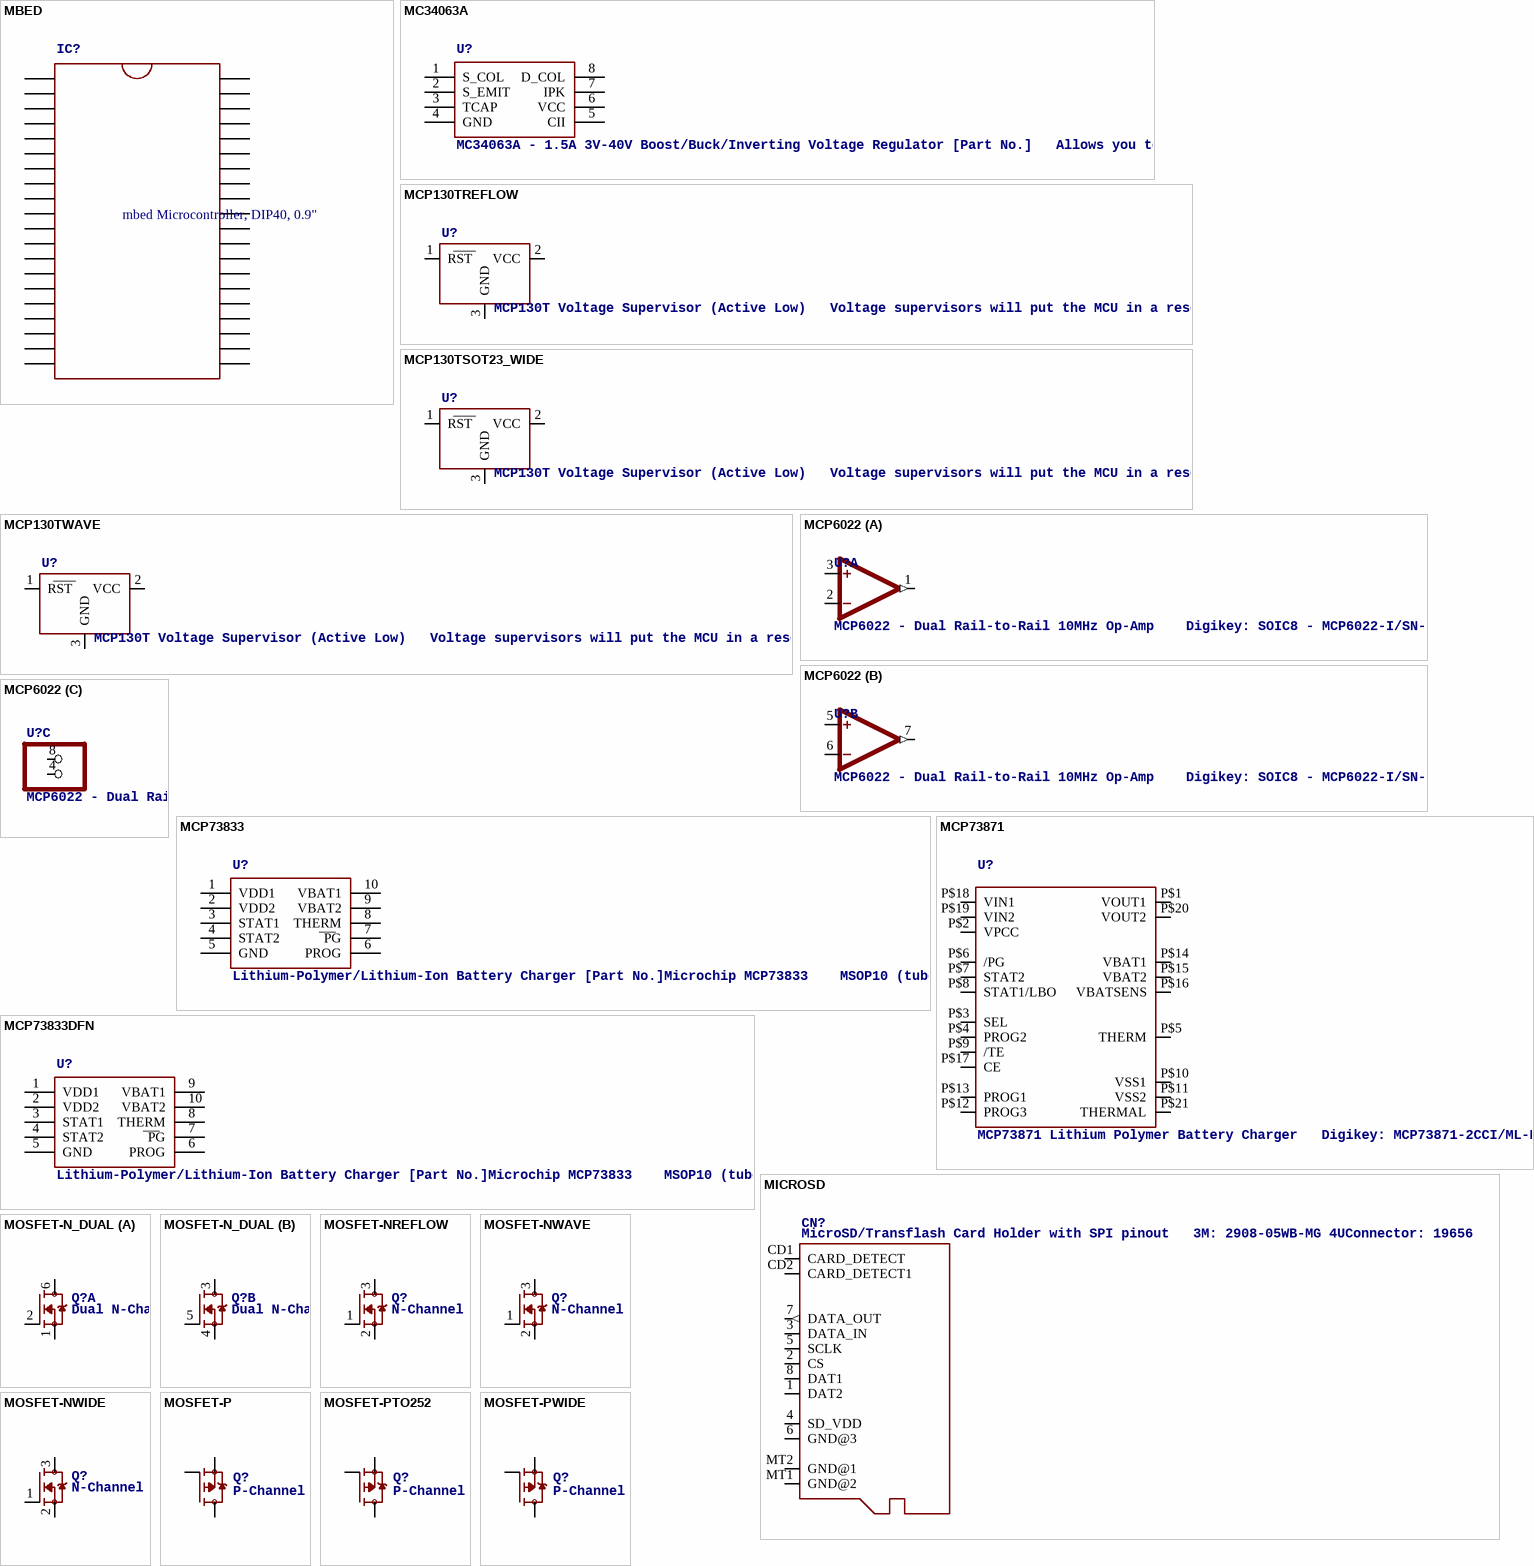
[diagram p43: symbols MBED to MOSFET-PWIDE]

## MBED
designator IC?, comment mbed Microcontroller, DIP40, 0.9"
footprint DIL40_0.9
pins: 1 P$1, 2 P$2, 3 P$3, 4 P$4, 5 P$5, 6 P$6, 7 P$7, 8 P$8, 9 P$9, 10 P$10, 11 P$11, 12 P$12, 13 P$13, 14 P$14, 15 P$15, 16 P$16, 17 P$17, 18 P$18, 19 P$19, 20 P$20, 21 P$21, 22 P$22, 23 P$23, 24 P$24, 25 P$25, 26 P$26, 27 P$27, 28 P$28, 29 P$29, 30 P$30, 31 P$31, 32 P$32, 33 P$33, 34 P$34, 35 P$35, 36 P$36, 37 P$37, 38 P$38, 39 P$39, 40 P$40

## MC34063A
designator U?, comment MC34063A - 1.5A 3V-40V Boost/Buck/Inverting Voltage Regulator [Part No.]   Allows you to 'boost', reduce or invert the voltage of your power supply to a more appropriate level.  Common voltage regulators like the LM1117 are easy to use, but they can only 'reduce' the voltage level and require more volts than they provide, making them useless for low voltage power supplies like batteries or solar panels. A 'Step-Up' regulator like the MC34063A solves this problem by also allowing you to increase the voltage to a pre-determined level, though you still need to pay attention to the minimum voltage level the converter can handle, keeping in mind that many 'step-up' converts are less efficient at the two extreme ends of their working range.   Given that many step-up circuits introduce some ripple to the power supply, you can often get a much 'smoother' supply by boosting the voltage up to 5.0V and then using a standard fixed voltage regulator (such as the common LM1117, etc.) to drop the voltage back down to 3.3V.  This may not be necessary, and some step up regulators can provide a smooth supply on their own, but it's worth keeping in mind if you do encounter some ripple in the power supply using only a step-up IC for your power supply.Texas Instruments MC34063A    Digikey: 296-17765-1-ND
footprint SOIC8_150MIL
pins: 1 S_COL, 2 S_EMIT, 3 TCAP, 4 GND, 5 CII, 6 VCC, 7 IPK, 8 D_COL

## MCP130TREFLOW
designator U?, comment MCP130T Voltage Supervisor (Active Low)   Voltage supervisors will put the MCU in a reset state if the voltage drops below a pre-determined level.   SOT23-R/SOT23-W: Voltage Supervisor - 3.15V Active Low       Note: Use the "Reflow" footprint when working with solder paste, and the "Wave" footprint when soldering by hand with a soldering iron (the latter has larger pads that are easier to solder by hand).   Digikey: MCP130T-315I/TTCT-ND
footprint SOT23-R
pins: 1 RST, 2 VCC (power), 3 GND (power)

## MCP130TSOT23_WIDE
designator U?, comment MCP130T Voltage Supervisor (Active Low)   Voltage supervisors will put the MCU in a reset state if the voltage drops below a pre-determined level.   SOT23-R/SOT23-W: Voltage Supervisor - 3.15V Active Low       Note: Use the "Reflow" footprint when working with solder paste, and the "Wave" footprint when soldering by hand with a soldering iron (the latter has larger pads that are easier to solder by hand).   Digikey: MCP130T-315I/TTCT-ND
footprint SOT23-WIDE
pins: 1 RST, 2 VCC (power), 3 GND (power)

## MCP130TWAVE
designator U?, comment MCP130T Voltage Supervisor (Active Low)   Voltage supervisors will put the MCU in a reset state if the voltage drops below a pre-determined level.   SOT23-R/SOT23-W: Voltage Supervisor - 3.15V Active Low       Note: Use the "Reflow" footprint when working with solder paste, and the "Wave" footprint when soldering by hand with a soldering iron (the latter has larger pads that are easier to solder by hand).   Digikey: MCP130T-315I/TTCT-ND
footprint SOT23-W
pins: 1 RST, 2 VCC (power), 3 GND (power)

## MCP6022
designator U?, comment MCP6022 - Dual Rail-to-Rail 10MHz Op-Amp    Digikey: SOIC8 - MCP6022-I/SN-ND
footprint SOIC8_150MIL
part A pins: 1 OUT (out), 2 -IN, 3 +IN
part B pins: 5 +IN, 6 -IN, 7 OUT (out)
part C pins: 4 -, 8 +

## MCP73833
designator U?, comment Lithium-Polymer/Lithium-Ion Battery Charger [Part No.]Microchip MCP73833    MSOP10 (tube only):   Digikey: MCP73833T-AMI/UN or MCP73833-FCI/UN-ND Mouser: 579-MCP73833-AMI/UN   DFN10 (tape):   Digikey:    Note Chips ending in 'AMI' have no timer, and chips ending in 'FCI' have a 6-hour timer that will end the charge sequence after 6 horus regqrdless of current charge level.
footprint MSOP10
pins: 1 VDD1, 2 VDD2, 3 STAT1, 4 STAT2, 5 GND, 6 PROG, 7 PG, 8 THERM, 9 VBAT2, 10 VBAT1

## MCP73833DFN
designator U?, comment Lithium-Polymer/Lithium-Ion Battery Charger [Part No.]Microchip MCP73833    MSOP10 (tube only):   Digikey: MCP73833T-AMI/UN or MCP73833-FCI/UN-ND Mouser: 579-MCP73833-AMI/UN   DFN10 (tape):   Digikey:    Note Chips ending in 'AMI' have no timer, and chips ending in 'FCI' have a 6-hour timer that will end the charge sequence after 6 horus regqrdless of current charge level.
footprint DFN10_3X3MM
pins: 1 VDD1, 2 VDD2, 3 STAT1, 4 STAT2, 5 GND, 6 PROG, 7 PG, 8 THERM, 9 VBAT1, 10 VBAT2

## MCP73871
designator U?, comment MCP73871 Lithium Polymer Battery Charger   Digikey: MCP73871-2CCI/ML-ND
footprint QFN20_4MM
pins: P$1 VOUT1, P$2 VPCC, P$3 SEL, P$4 PROG2, P$5 THERM, P$6 /PG, P$7 STAT2, P$8 STAT1/LBO, P$9 /TE, P$10 VSS1, P$11 VSS2, P$12 PROG3, P$13 PROG1, P$14 VBAT1, P$15 VBAT2, P$16 VBATSENS, P$17 CE, P$18 VIN1, P$19 VIN2, P$20 VOUT2, P$21 THERMAL

## MICROSD
designator CN?, comment MicroSD/Transflash Card Holder with SPI pinout   3M: 2908-05WB-MG 4UConnector: 19656   Footprint courtesy: Adafruit Industries
footprint MICROSD
pins: 1 DAT2, 2 CS, 3 DATA_IN, 4 SD_VDD (power), 5 SCLK, 6 GND@3 (power), 7 DATA_OUT (out), 8 DAT1, CD1 CARD_DETECT, CD2 CARD_DETECT1, MT1 GND@2 (power), MT2 GND@1 (power)

## MOSFET-N_DUAL
designator Q?, comment Dual N-Channel MOSFET   SOT363 (2.0x1.25mm) 2N7002PS - 60V, 320mA [Digikey: 568-5984-1-ND]
footprint SOT363
part A pins: 1 S, 2 G, 6 D
part B pins: 3 D, 4 S, 5 G

## MOSFET-NREFLOW
designator Q?, comment N-Channel Mosfet   LEGEND   VDS: Voltage Drain-Source ID: Drain Current RDS(ON): Drain-Source On-State Resistance VGS(TH): Gate-Source Threshold Voltage CISS: Drain-Source Input Capacitance    SOT-23   Name	VDS	ID	RDS(ON)	VGS(TH)	CISS	Order Number	   2N7002E	60V	260mA	2.5 Ohm	2.5V @ 250uA	26.7pF @ 25V	2N7002ET1GOSTR-ND	   BSH103	30V	850mA	400 mOhm	400mV @ 1mA	83pF @ 24V	BSH103,235-ND	   BSS138	60V	320mA	1.6 Ohm	1.5V @ 250uA	50pF @ 10V	Mouser: 771-BSS138PW115	   DMN2075U-7	20V	4.2A	38 mOhm	1V @ 250 uA	594.3pF @ 10V	DMN2075U-7DICT-ND	   							   * BSS138 good choice for I2C level-shifting
footprint SOT23-R
pins: 1 G, 2 S, 3 D

## MOSFET-NWAVE
designator Q?, comment N-Channel Mosfet   LEGEND   VDS: Voltage Drain-Source ID: Drain Current RDS(ON): Drain-Source On-State Resistance VGS(TH): Gate-Source Threshold Voltage CISS: Drain-Source Input Capacitance    SOT-23   Name	VDS	ID	RDS(ON)	VGS(TH)	CISS	Order Number	   2N7002E	60V	260mA	2.5 Ohm	2.5V @ 250uA	26.7pF @ 25V	2N7002ET1GOSTR-ND	   BSH103	30V	850mA	400 mOhm	400mV @ 1mA	83pF @ 24V	BSH103,235-ND	   BSS138	60V	320mA	1.6 Ohm	1.5V @ 250uA	50pF @ 10V	Mouser: 771-BSS138PW115	   DMN2075U-7	20V	4.2A	38 mOhm	1V @ 250 uA	594.3pF @ 10V	DMN2075U-7DICT-ND	   							   * BSS138 good choice for I2C level-shifting
footprint SOT23-W
pins: 1 G, 2 S, 3 D

## MOSFET-NWIDE
designator Q?, comment N-Channel Mosfet   LEGEND   VDS: Voltage Drain-Source ID: Drain Current RDS(ON): Drain-Source On-State Resistance VGS(TH): Gate-Source Threshold Voltage CISS: Drain-Source Input Capacitance    SOT-23   Name	VDS	ID	RDS(ON)	VGS(TH)	CISS	Order Number	   2N7002E	60V	260mA	2.5 Ohm	2.5V @ 250uA	26.7pF @ 25V	2N7002ET1GOSTR-ND	   BSH103	30V	850mA	400 mOhm	400mV @ 1mA	83pF @ 24V	BSH103,235-ND	   BSS138	60V	320mA	1.6 Ohm	1.5V @ 250uA	50pF @ 10V	Mouser: 771-BSS138PW115	   DMN2075U-7	20V	4.2A	38 mOhm	1V @ 250 uA	594.3pF @ 10V	DMN2075U-7DICT-ND	   							   * BSS138 good choice for I2C level-shifting
footprint SOT23-WIDE
pins: 1 G, 2 S, 3 D

## MOSFET-P
designator Q?, comment P-Channel Mosfet   LEGEND   VDS: Voltage Drain-Source ID: Drain Current RDS(ON): Drain-Source On-State Resistance VGS(TH): Gate-Source Threshold Voltage CISS: Drain-Source Input Capacitance    SOT-23   Name	VDS	ID	RDS(ON)	VGS(TH)	CISS	Order Number	   IRLML5103	30V	760mA	600 mOhm	--	75pF @ 25V	Digikey: IRLML5103PBFCT-ND	   IRLML6401	12V	4.3A	50 mOhm	950mV @ 250µA	830pF @ 10V	Digikey: IRLML6401PBFTR-ND	   NTR0202PL	20V	400mA	800 mOhm	2.3V @ 250uA	70pF @ 5V	Digikey: NTR0202PLT1GOSTR-ND	   NTR4101PT1G	20V	1.8A	85 mOhm	1.2V @ 250uA	675pF @ 10V	Digikey: NTR4101PT1GOSCT-ND	   DMP2004K	20V	600mA	900 mOhm	1V @ 250uA	175pF @ 16V	Digikey: DMP2004KDICT-ND	   PMV65XP	20V	3.9A	76 mOhm	950mV @ 1mA	725pF @ 20V	Digikey: 568-2358-2-ND	   							   							TO-252   Name	VDS	ID	RDS(ON)	VGS(TH)	CISS	Order Number	   AOD417	30V	25A	34 mOhm	3V @ 250µA	920pF @ 15V	Digikey: 785-1106-2-ND
footprint SOT23-R
pins: 1 G, 2 S, 3 D

## MOSFET-PTO252
designator Q?, comment P-Channel Mosfet   LEGEND   VDS: Voltage Drain-Source ID: Drain Current RDS(ON): Drain-Source On-State Resistance VGS(TH): Gate-Source Threshold Voltage CISS: Drain-Source Input Capacitance    SOT-23   Name	VDS	ID	RDS(ON)	VGS(TH)	CISS	Order Number	   IRLML5103	30V	760mA	600 mOhm	--	75pF @ 25V	Digikey: IRLML5103PBFCT-ND	   IRLML6401	12V	4.3A	50 mOhm	950mV @ 250µA	830pF @ 10V	Digikey: IRLML6401PBFTR-ND	   NTR0202PL	20V	400mA	800 mOhm	2.3V @ 250uA	70pF @ 5V	Digikey: NTR0202PLT1GOSTR-ND	   NTR4101PT1G	20V	1.8A	85 mOhm	1.2V @ 250uA	675pF @ 10V	Digikey: NTR4101PT1GOSCT-ND	   DMP2004K	20V	600mA	900 mOhm	1V @ 250uA	175pF @ 16V	Digikey: DMP2004KDICT-ND	   PMV65XP	20V	3.9A	76 mOhm	950mV @ 1mA	725pF @ 20V	Digikey: 568-2358-2-ND	   							   							TO-252   Name	VDS	ID	RDS(ON)	VGS(TH)	CISS	Order Number	   AOD417	30V	25A	34 mOhm	3V @ 250µA	920pF @ 15V	Digikey: 785-1106-2-ND
footprint TO252
pins: 1 G, 2 S, 3 D

## MOSFET-PWIDE
designator Q?, comment P-Channel Mosfet   LEGEND   VDS: Voltage Drain-Source ID: Drain Current RDS(ON): Drain-Source On-State Resistance VGS(TH): Gate-Source Threshold Voltage CISS: Drain-Source Input Capacitance    SOT-23   Name	VDS	ID	RDS(ON)	VGS(TH)	CISS	Order Number	   IRLML5103	30V	760mA	600 mOhm	--	75pF @ 25V	Digikey: IRLML5103PBFCT-ND	   IRLML6401	12V	4.3A	50 mOhm	950mV @ 250µA	830pF @ 10V	Digikey: IRLML6401PBFTR-ND	   NTR0202PL	20V	400mA	800 mOhm	2.3V @ 250uA	70pF @ 5V	Digikey: NTR0202PLT1GOSTR-ND	   NTR4101PT1G	20V	1.8A	85 mOhm	1.2V @ 250uA	675pF @ 10V	Digikey: NTR4101PT1GOSCT-ND	   DMP2004K	20V	600mA	900 mOhm	1V @ 250uA	175pF @ 16V	Digikey: DMP2004KDICT-ND	   PMV65XP	20V	3.9A	76 mOhm	950mV @ 1mA	725pF @ 20V	Digikey: 568-2358-2-ND	   							   							TO-252   Name	VDS	ID	RDS(ON)	VGS(TH)	CISS	Order Number	   AOD417	30V	25A	34 mOhm	3V @ 250µA	920pF @ 15V	Digikey: 785-1106-2-ND
footprint SOT23-WIDE
pins: 1 G, 2 S, 3 D

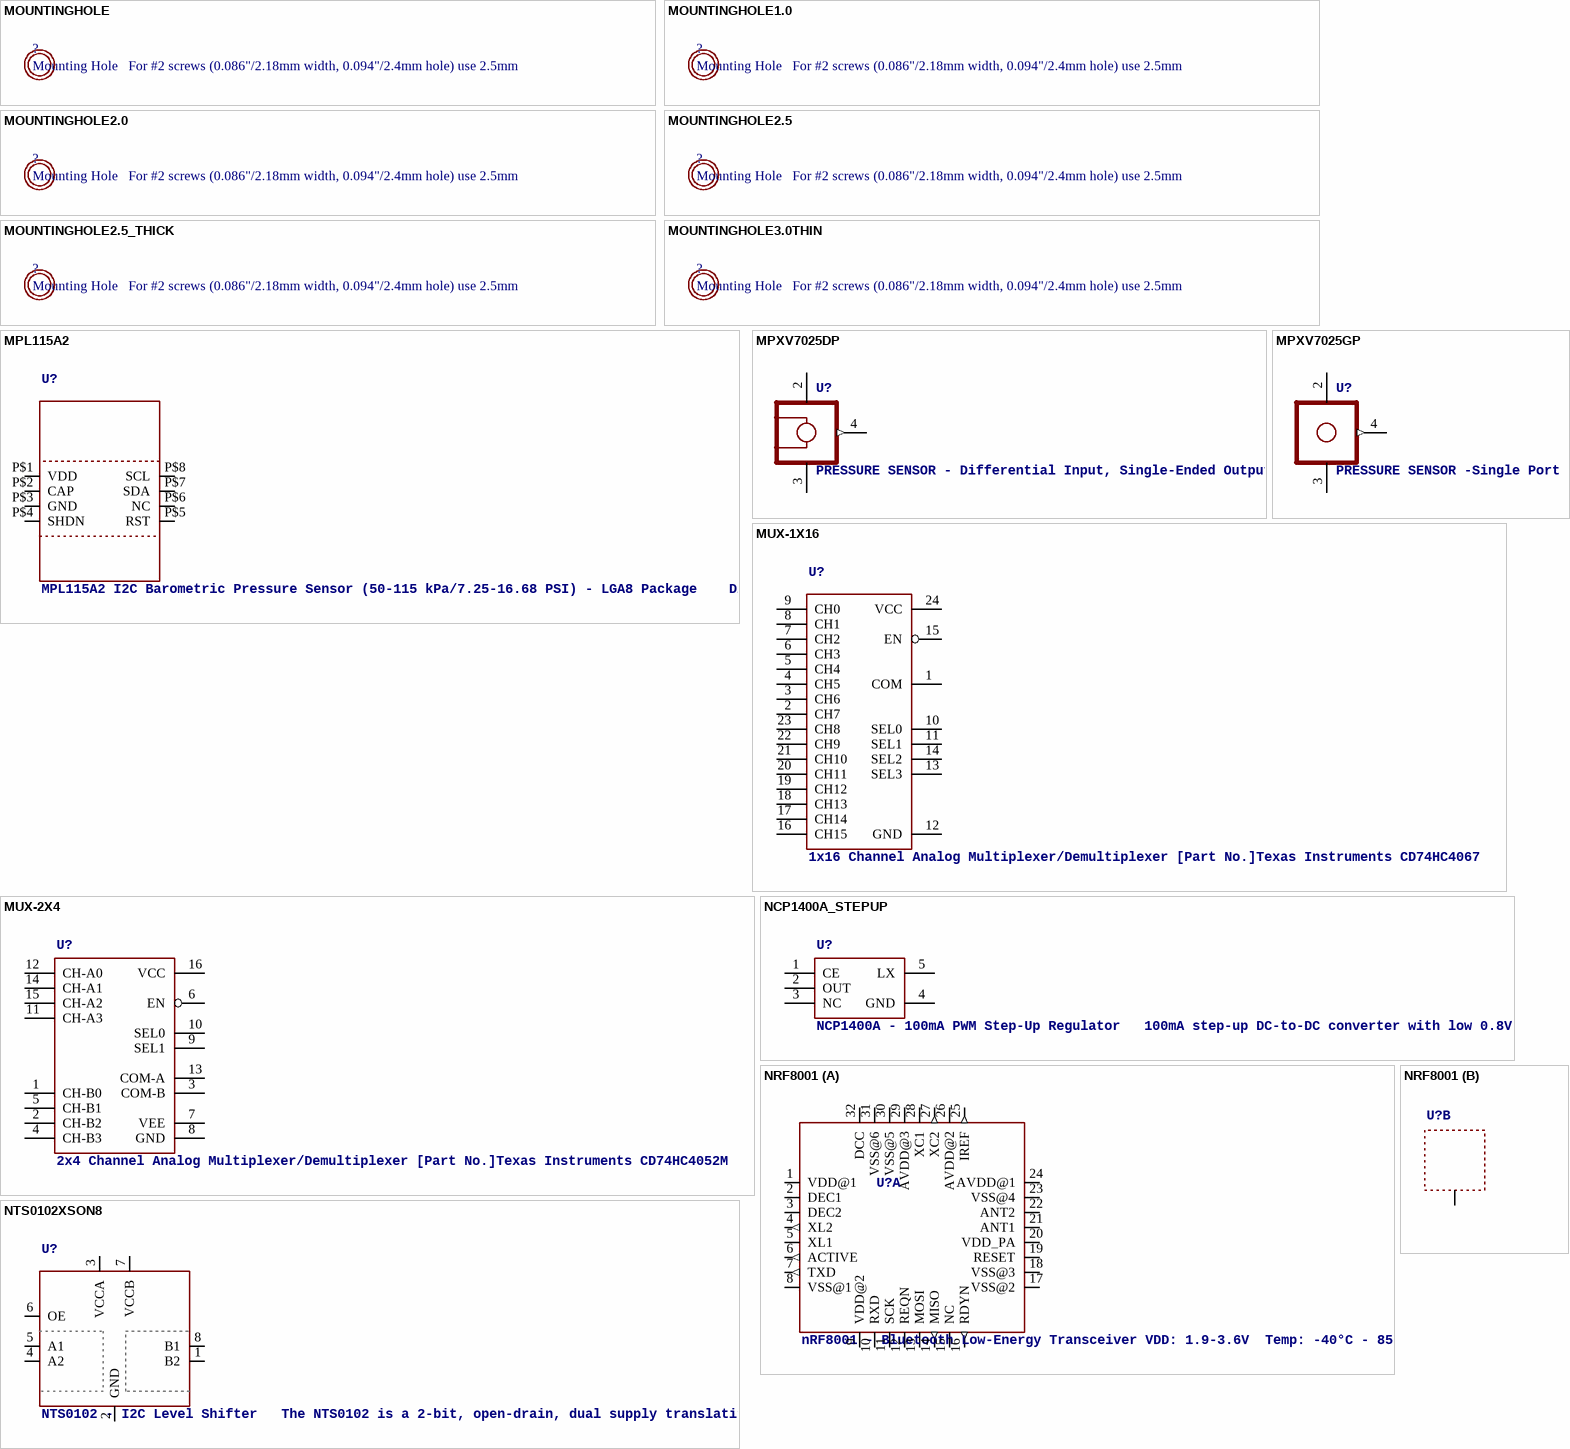
[diagram p44: symbols MOUNTINGHOLE to NTS0102XSON8]

## MOUNTINGHOLE
designator ?, comment Mounting Hole   For #2 screws (0.086"/2.18mm width, 0.094"/2.4mm hole) use 2.5mm
footprint MOUNTINGHOLE_3.0_PLATED

## MOUNTINGHOLE1.0
designator ?, comment Mounting Hole   For #2 screws (0.086"/2.18mm width, 0.094"/2.4mm hole) use 2.5mm
BOM: EXCLUDE
footprint MOUNTINGHOLE_1.0_PLATED

## MOUNTINGHOLE2.0
designator ?, comment Mounting Hole   For #2 screws (0.086"/2.18mm width, 0.094"/2.4mm hole) use 2.5mm
footprint MOUNTINGHOLE_2.0_PLATED

## MOUNTINGHOLE2.5
designator ?, comment Mounting Hole   For #2 screws (0.086"/2.18mm width, 0.094"/2.4mm hole) use 2.5mm
footprint MOUNTINGHOLE_2.5_PLATED

## MOUNTINGHOLE2.5_THICK
designator ?, comment Mounting Hole   For #2 screws (0.086"/2.18mm width, 0.094"/2.4mm hole) use 2.5mm
footprint MOUNTINGHOLE_2.5_PLATED_THICK

## MOUNTINGHOLE3.0THIN
designator ?, comment Mounting Hole   For #2 screws (0.086"/2.18mm width, 0.094"/2.4mm hole) use 2.5mm
footprint MOUNTINGHOLE_3.0_PLATEDTHIN

## MPL115A2
designator U?, comment MPL115A2 I2C Barometric Pressure Sensor (50-115 kPa/7.25-16.68 PSI) - LGA8 Package    Digikey: MPL115A2T1CT-ND
footprint LGA8
pins: P$1 VDD (power), P$2 CAP, P$3 GND (power), P$4 SHDN, P$5 RST, P$6 NC, P$7 SDA, P$8 SCL

## MPXV7025DP
designator U?, comment PRESSURE SENSOR - Differential Input, Single-Ended Output
footprint SOP8-1351
pins: 2 VS (power), 3 GND (power), 4 +VOUT (out)

## MPXV7025GP
designator U?, comment PRESSURE SENSOR -Single Port
footprint SOP8-1369
pins: 2 VS (power), 3 GND (power), 4 OUT (out)

## MUX-1X16
designator U?, comment 1x16 Channel Analog Multiplexer/Demultiplexer [Part No.]Texas Instruments CD74HC4067    Digikey: 296-9226-6-ND
footprint SSOP24
pins: 1 COM, 2 CH7, 3 CH6, 4 CH5, 5 CH4, 6 CH3, 7 CH2, 8 CH1, 9 CH0, 10 SEL0, 11 SEL1, 12 GND, 13 SEL3, 14 SEL2, 15 EN, 16 CH15, 17 CH14, 18 CH13, 19 CH12, 20 CH11, 21 CH10, 22 CH9, 23 CH8, 24 VCC

## MUX-2X4
designator U?, comment 2x4 Channel Analog Multiplexer/Demultiplexer [Part No.]Texas Instruments CD74HC4052M    Digikey: 296-9218-5-ND
footprint SOIC16
pins: 1 CH-B0, 2 CH-B2, 3 COM-B, 4 CH-B3, 5 CH-B1, 6 EN, 7 VEE, 8 GND, 9 SEL1, 10 SEL0, 11 CH-A3, 12 CH-A0, 13 COM-A, 14 CH-A1, 15 CH-A2, 16 VCC

## NCP1400A_STEPUP
designator U?, comment NCP1400A - 100mA PWM Step-Up Regulator   100mA step-up DC-to-DC converter with low 0.8V startup. 3.3V Version (SOT23-5) - Digikey: NCP1400ASN33T1GOSCT-ND  5.0V Version (SOT23-5) - Digikey: NCP1400ASN50T1GOSCT-ND       NCP1402 - 200mA PWM Step-Up Regulator   200mA step-up DC-to-DC converter with low 0.8V startup 3.3V Version (SOT23-5) - Digikey: NCP1402SN33T1GOSCT-ND  5.0V Version (SOT23-5) - Digikey: NCP1402SN50T1GOSCT-ND
footprint SOT23-5
pins: 1 CE, 2 OUT, 3 NC, 4 GND, 5 LX

## NRF8001
designator U?, comment nRF8001 - Bluetooth Low-Energy Transceiver VDD: 1.9-3.6V  Temp: -40°C - 85°C
footprint QFN32_5MM
part A pins: 1 VDD@1 (power), 2 DEC1, 3 DEC2, 4 XL2 (out), 5 XL1, 6 ACTIVE (out), 7 TXD (out), 8 VSS@1 (power), 9 VDD@2 (power), 10 RXD, 11 SCK, 12 REQN, 13 MOSI, 14 MISO (out), 15 NC, 16 RDYN (out), 17 VSS@2 (power), 18 VSS@3 (power), 19 RESET, 20 VDD_PA, 21 ANT1, 22 ANT2, 23 VSS@4 (power), 24 AVDD@1 (power), 25 IREF (out), 26 AVDD@2 (power), 27 XC2 (out), 28 XC1, 29 AVDD@3 (power), 30 VSS@5 (power), 31 VSS@6 (power), 32 DCC
part B pins: 33 TP (power)

## NTS0102XSON8
designator U?, comment NTS0102 - I2C Level Shifter   The NTS0102 is a 2-bit, open-drain, dual supply translating transceiver with auto direction sensing, that enables bidirectional voltage level translation. VCCA: 1.65-3.6V  VCCB: 2.3V-5.5V  Max Data Rate: 50 Mbps  Temperature: -40°C - 125°C     XSON8 Package (NTS0102GT) - Mouser: 771-NTS0102GT115
footprint SOT833-1
pins: 1 B2, 2 GND, 3 VCCA, 4 A2, 5 A1, 6 OE, 7 VCCB, 8 B1

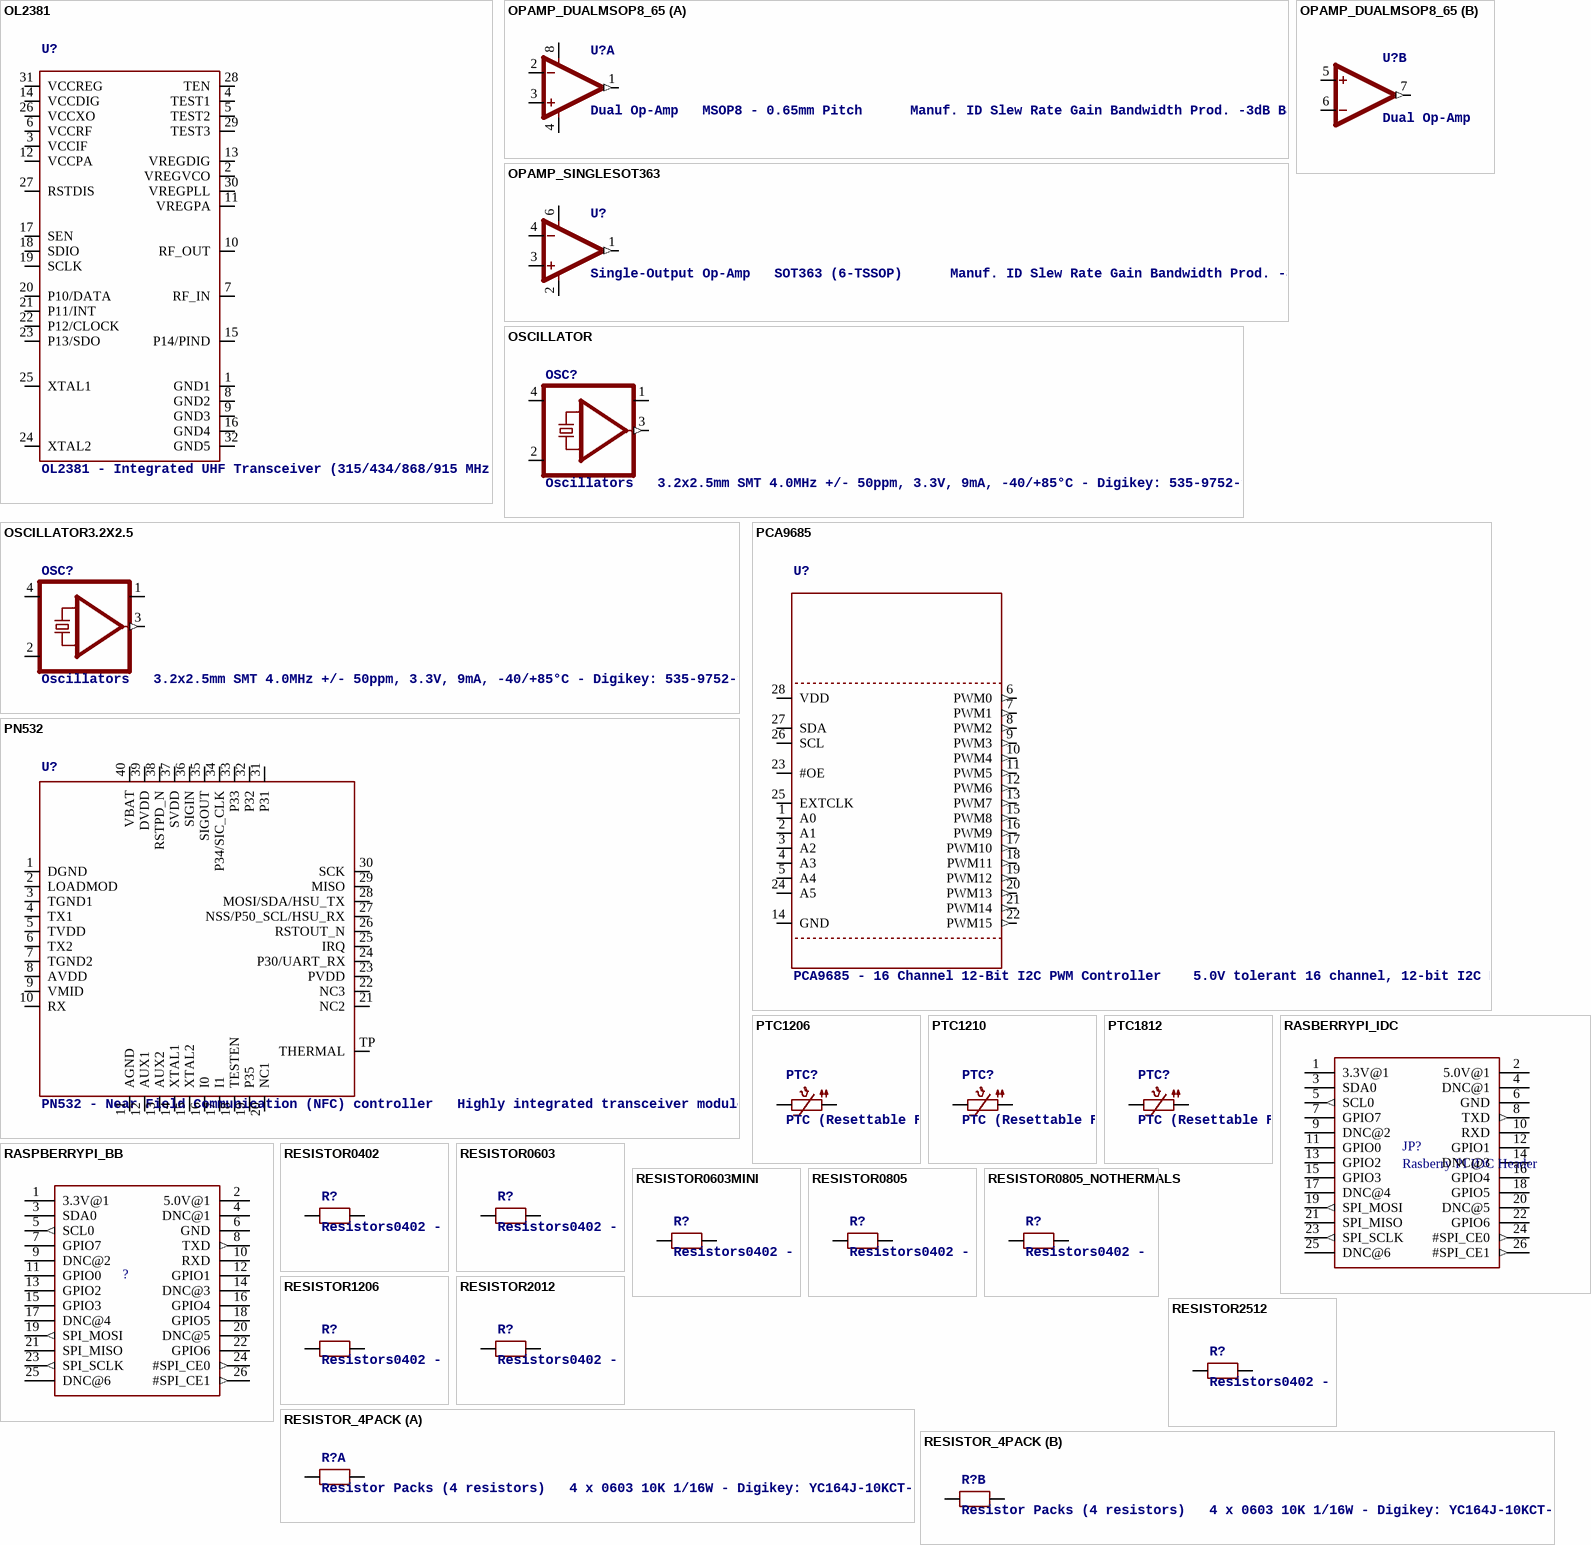
[diagram p45: symbols OL2381 to RESISTOR_4PACK]

## OL2381
designator U?, comment OL2381 - Integrated UHF Transceiver (315/434/868/915 MHz)
footprint HVQFN32-5X5
pins: 1 GND1, 2 VREGVCO, 3 VCCIF, 4 TEST1, 5 TEST2, 6 VCCRF, 7 RF_IN, 8 GND2, 9 GND3, 10 RF_OUT, 11 VREGPA, 12 VCCPA, 13 VREGDIG, 14 VCCDIG, 15 P14/PIND, 16 GND4, 17 SEN, 18 SDIO, 19 SCLK, 20 P10/DATA, 21 P11/INT, 22 P12/CLOCK, 23 P13/SDO, 24 XTAL2, 25 XTAL1, 26 VCCXO, 27 RSTDIS, 28 TEN, 29 TEST3, 30 VREGPLL, 31 VCCREG, 32 GND5

## OPAMP_DUALMSOP8_65
designator U?, comment Dual Op-Amp   MSOP8 - 0.65mm Pitch      Manuf. ID	Slew Rate	Gain Bandwidth Prod.	-3dB Bandwidth	Current Input Bias	Voltage Input Offset	Supply - Single	Supply - Dual	Digikey	Mouser	   EL5236IYZ-T7	128V/µs 	300MHz	250MHz	6.5µA	100µV	5-12V	+/-2.5-6V	EL5236IYZ-T7TR-ND	--
footprint MSOP8_0.65MM
part A pins: 1 OUT (out), 2 -IN, 3 +IN, 4 V- (power), 8 V+ (power)
part B pins: 5 +IN, 6 -IN, 7 OUT (out)

## OPAMP_SINGLESOT363
designator U?, comment Single-Output Op-Amp   SOT363 (6-TSSOP)      Manuf. ID	Slew Rate	Gain Bandwidth Prod.	-3dB Bandwidth	Current Input Bias	Voltage Input Offset	Supply - Single	Supply - Dual	Digikey	Mouser	   LMV341MG/NOPB	1V/µs 	1MHz	--	0.02pA	25µV	2.4-5.5V		LMV341MGTR-ND	926-LMV341MG/NOPB	   LMH6601MG/NOPB	275V/µs 	155MHz	250MHz	5pA	1000µV	2.4-5.5V	+/-1.2-2.75V	LMH6601MGCT-ND	926-LMH6601MG/NOPB
footprint SOT363
pins: 1 OUT (out), 2 V- (power), 3 +IN, 4 -IN, 6 V+ (power)

## OSCILLATOR
designator OSC?, comment Oscillators   3.2x2.5mm SMT 4.0MHz +/- 50ppm, 3.3V, 9mA, -40/+85°C - Digikey: 535-9752-1-ND  50MHz +/- 50ppm, 3.3V, 8mA, -10/+70°C - Digikey: 478-4792-1-ND       5x7mm SMT 4.0MHz +/-20ppm 3.3V, 20mA, -20/+70°C - Digikey: 535-9329-2-ND  50MHz +/- 25ppm 3.3V, 35mA, -40/+85°C - Digikey: 631-1197-1-ND
footprint OSC_7X5MM
pins: 1 INH, 2 GND (power), 3 OUT (out), 4 VCC (power)

## OSCILLATOR3.2X2.5
designator OSC?, comment Oscillators   3.2x2.5mm SMT 4.0MHz +/- 50ppm, 3.3V, 9mA, -40/+85°C - Digikey: 535-9752-1-ND  50MHz +/- 50ppm, 3.3V, 8mA, -10/+70°C - Digikey: 478-4792-1-ND       5x7mm SMT 4.0MHz +/-20ppm 3.3V, 20mA, -20/+70°C - Digikey: 535-9329-2-ND  50MHz +/- 25ppm 3.3V, 35mA, -40/+85°C - Digikey: 631-1197-1-ND
footprint OSC_3.2X2.5MM
pins: 1 INH, 2 GND (power), 3 OUT (out), 4 VCC (power)

## PCA9685
designator U?, comment PCA9685 - 16 Channel 12-Bit I2C PWM Controller    5.0V tolerant 16 channel, 12-bit I2C PWM controller with 25mA per output (max. 400mA total)   Digikey: 568-5931-1-ND
footprint TSSOP28
pins: 1 A0, 2 A1, 3 A2, 4 A3, 5 A4, 6 PWM0 (out), 7 PWM1 (out), 8 PWM2 (out), 9 PWM3 (out), 10 PWM4 (out), 11 PWM5 (out), 12 PWM6 (out), 13 PWM7 (out), 14 GND (power), 15 PWM8 (out), 16 PWM9 (out), 17 PWM10 (out), 18 PWM11 (out), 19 PWM12 (out), 20 PWM13 (out), 21 PWM14 (out), 22 PWM15 (out), 23 #OE, 24 A5, 25 EXTCLK, 26 SCL, 27 SDA, 28 VDD (power)

## PN532
designator U?, comment PN532 - Near Field Communication (NFC) controller   Highly integrated transceiver module for contactless communication at 13.56 MHz (14443A/MIFARE, FeliCa, I4443B)
footprint HVQFN40-6X6
pins: 1 DGND, 2 LOADMOD, 3 TGND1, 4 TX1, 5 TVDD, 6 TX2, 7 TGND2, 8 AVDD, 9 VMID, 10 RX, 11 AGND, 12 AUX1, 13 AUX2, 14 XTAL1, 15 XTAL2, 16 I0, 17 I1, 18 TESTEN, 19 P35, 20 NC1, 21 NC2, 22 NC3, 23 PVDD, 24 P30/UART_RX, 25 IRQ, 26 RSTOUT_N, 27 NSS/P50_SCL/HSU_RX, 28 MOSI/SDA/HSU_TX, 29 MISO, 30 SCK, 31 P31, 32 P32, 33 P33, 34 P34/SIC_CLK, 35 SIGOUT, 36 SIGIN, 37 SVDD, 38 RSTPD_N, 39 DVDD, 40 VBAT, TP THERMAL

## PTC1206
designator PTC?, comment PTC (Resettable Fuse)   1206 Package 250mA PTC (16V Max, Time-to-Trip: 0.08s) - Digikey: F2110CT-ND       1210 Package 100mA PTC (30V Max, Time-to-Trip: 0.6s) - Digikey: MF-USMF010-2CT-ND       1812 Package 750mA PTC (24V Max, Time-to-Trip: 0.2s) - Digikey: MF-MSMF075/24-2CT-ND
footprint 1206
pins: 1, 2

## PTC1210
designator PTC?, comment PTC (Resettable Fuse)   1206 Package 250mA PTC (16V Max, Time-to-Trip: 0.08s) - Digikey: F2110CT-ND       1210 Package 100mA PTC (30V Max, Time-to-Trip: 0.6s) - Digikey: MF-USMF010-2CT-ND       1812 Package 750mA PTC (24V Max, Time-to-Trip: 0.2s) - Digikey: MF-MSMF075/24-2CT-ND
footprint PTC1210
pins: P$1 1, P$2 2

## PTC1812
designator PTC?, comment PTC (Resettable Fuse)   1206 Package 250mA PTC (16V Max, Time-to-Trip: 0.08s) - Digikey: F2110CT-ND       1210 Package 100mA PTC (30V Max, Time-to-Trip: 0.6s) - Digikey: MF-USMF010-2CT-ND       1812 Package 750mA PTC (24V Max, Time-to-Trip: 0.2s) - Digikey: MF-MSMF075/24-2CT-ND
footprint PTC1812
pins: P$1 1, P$2 2

## RASBERRYPI_IDC
designator JP?, comment Rasberry PI IDC Header
footprint RASBERRYPI_IDC
pins: 1 3.3V@1 (oe), 2 5.0V@1 (oe), 3 SDA0, 4 DNC@1, 5 SCL0 (out), 6 GND (oe), 7 GPIO7, 8 TXD (out), 9 DNC@2, 10 RXD, 11 GPIO0, 12 GPIO1, 13 GPIO2, 14 DNC@3, 15 GPIO3, 16 GPIO4, 17 DNC@4, 18 GPIO5, 19 SPI_MOSI (out), 20 DNC@5, 21 SPI_MISO, 22 GPIO6, 23 SPI_SCLK (out), 24 #SPI_CE0 (out), 25 DNC@6, 26 #SPI_CE1 (out)

## RASPBERRYPI_BB
designator ?
footprint RASBERRYPI_SHIELD
pins: 1 3.3V@1 (oe), 2 5.0V@1 (oe), 3 SDA0, 4 DNC@1, 5 SCL0 (out), 6 GND (oe), 7 GPIO7, 8 TXD (out), 9 DNC@2, 10 RXD, 11 GPIO0, 12 GPIO1, 13 GPIO2, 14 DNC@3, 15 GPIO3, 16 GPIO4, 17 DNC@4, 18 GPIO5, 19 SPI_MOSI (out), 20 DNC@5, 21 SPI_MISO, 22 GPIO6, 23 SPI_SCLK (out), 24 #SPI_CE0 (out), 25 DNC@6, 26 #SPI_CE1 (out)

## RESISTOR0402
designator R?, comment Resistors0402 - 0402 Surface Mount Package  22 Ohm 1% 1/16W [Digikey: 311-22.0LRTR-ND]  33 Ohm 5% 1/16W  1.0K 5% 1/16W  1.5K 5% 1/16W  2.0K 1% 1/16W  10.0K 1% 1/16W [Digikey: 311-10.0KLRTR-ND]  10.0K 5% 1/16W [Digikey: RMCF0402JT10K0TR-ND]  12.1K 1% 1/16W [Digikey: 311-22.0LRTR-ND]  100.0K 5% 1/16W    0603 - 0603 Surface Mount Package  0 Ohm 1/10 Watt 1% Resistor  15 Ohm 1/10 Watt 1% Resistor  33 Ohm 1/10 Watt 1% Resistor  49.9 Ohm 1/10 Watt 1% Resistor  100 Ohm 1/10 Watt 1% Resistor  150 Ohm 1/10 Watt 1% Resistor  240 Ohm 1/10 Watt 1% Resistor  390 Ohm 1/10 Watt 1% Resistor  560 Ohm 1/10 Watt 1% Resistor  680 Ohm 1/10 Watt 1% Resistor  750 Ohm 1/10 Watt 1% Resistor  1.0K Ohm 1/10 Watt 1% Resistor  1.5K Ohm 1/10 Watt 1% Resistor  2.0K Ohm 1/10 Watt 1% Resistor  2.2K Ohm 1/10 Watt 1% Resistor  3.3K Ohm 1/10 Watt 1% Resistor  4.7K Ohm 1/10 Watt 1% Resistor  10.0K Ohm 1/10 Watt 1% Resistor  12.0K Ohm 1/10 Watt 1% Resistor  12.1K Ohm 1/10 Watt 1% Resistor  20.0K Ohm 1/10 Watt 1% Resistor  33.0K Ohm 1/10 Watt 1% Resistor  100.0K Ohm 1/10 Watt 1% Resistor    0805 - 0805 Surface Mount Package  0 Ohm 1/8 Watt 1% Resistor  33 Ohm 1/8 Watt 1% Resistor  100 Ohm 1/8 Watt 1% Resistor  150 Ohm 1/8 Watt 1% Resistor  200 Ohm 1/8 Watt 1% Resistor  240 Ohm 1/8 Watt 1% Resistor  330 Ohm 1/8 Watt 1% Resistor  390 Ohm 1/8 Watt 1% Resistor  470 Ohm 1/8 Watt 1% Resistor  1.0K Ohm 1/8 Watt 1% Resistor  1.5K Ohm 1/8 Watt 1% Resistor  2.0K Ohm 1/8 Watt 1% Resistor  4.7K Ohm 1/8 Watt 1% Resistor  5.1K Ohm 1/8 Watt 1% Resistor  5.6K Ohm 1/8 Watt 1% Resistor  10.0K Ohm 1/8 Watt 1% Resistor  22.0K Ohm 1/8 Watt 1% Resistor  33.0K Ohm 1/8 Watt 1% Resistor  100K Ohm 1/8 Watt 1% Resistor    1206 - 1206 Surface Mount Package  2012 - 2010 Surface Mount Package  0.11 Ohm 1/2 Watt 1% Resistor - Digikey: RHM.11UCT-ND
footprint 0402
pins: 1, 2

## RESISTOR0603
designator R?, comment Resistors0402 - 0402 Surface Mount Package  22 Ohm 1% 1/16W [Digikey: 311-22.0LRTR-ND]  33 Ohm 5% 1/16W  1.0K 5% 1/16W  1.5K 5% 1/16W  2.0K 1% 1/16W  10.0K 1% 1/16W [Digikey: 311-10.0KLRTR-ND]  10.0K 5% 1/16W [Digikey: RMCF0402JT10K0TR-ND]  12.1K 1% 1/16W [Digikey: 311-22.0LRTR-ND]  100.0K 5% 1/16W    0603 - 0603 Surface Mount Package  0 Ohm 1/10 Watt 1% Resistor  15 Ohm 1/10 Watt 1% Resistor  33 Ohm 1/10 Watt 1% Resistor  49.9 Ohm 1/10 Watt 1% Resistor  100 Ohm 1/10 Watt 1% Resistor  150 Ohm 1/10 Watt 1% Resistor  240 Ohm 1/10 Watt 1% Resistor  390 Ohm 1/10 Watt 1% Resistor  560 Ohm 1/10 Watt 1% Resistor  680 Ohm 1/10 Watt 1% Resistor  750 Ohm 1/10 Watt 1% Resistor  1.0K Ohm 1/10 Watt 1% Resistor  1.5K Ohm 1/10 Watt 1% Resistor  2.0K Ohm 1/10 Watt 1% Resistor  2.2K Ohm 1/10 Watt 1% Resistor  3.3K Ohm 1/10 Watt 1% Resistor  4.7K Ohm 1/10 Watt 1% Resistor  10.0K Ohm 1/10 Watt 1% Resistor  12.0K Ohm 1/10 Watt 1% Resistor  12.1K Ohm 1/10 Watt 1% Resistor  20.0K Ohm 1/10 Watt 1% Resistor  33.0K Ohm 1/10 Watt 1% Resistor  100.0K Ohm 1/10 Watt 1% Resistor    0805 - 0805 Surface Mount Package  0 Ohm 1/8 Watt 1% Resistor  33 Ohm 1/8 Watt 1% Resistor  100 Ohm 1/8 Watt 1% Resistor  150 Ohm 1/8 Watt 1% Resistor  200 Ohm 1/8 Watt 1% Resistor  240 Ohm 1/8 Watt 1% Resistor  330 Ohm 1/8 Watt 1% Resistor  390 Ohm 1/8 Watt 1% Resistor  470 Ohm 1/8 Watt 1% Resistor  1.0K Ohm 1/8 Watt 1% Resistor  1.5K Ohm 1/8 Watt 1% Resistor  2.0K Ohm 1/8 Watt 1% Resistor  4.7K Ohm 1/8 Watt 1% Resistor  5.1K Ohm 1/8 Watt 1% Resistor  5.6K Ohm 1/8 Watt 1% Resistor  10.0K Ohm 1/8 Watt 1% Resistor  22.0K Ohm 1/8 Watt 1% Resistor  33.0K Ohm 1/8 Watt 1% Resistor  100K Ohm 1/8 Watt 1% Resistor    1206 - 1206 Surface Mount Package  2012 - 2010 Surface Mount Package  0.11 Ohm 1/2 Watt 1% Resistor - Digikey: RHM.11UCT-ND
footprint 0603
pins: 1, 2

## RESISTOR0603MINI
designator R?, comment Resistors0402 - 0402 Surface Mount Package  22 Ohm 1% 1/16W [Digikey: 311-22.0LRTR-ND]  33 Ohm 5% 1/16W  1.0K 5% 1/16W  1.5K 5% 1/16W  2.0K 1% 1/16W  10.0K 1% 1/16W [Digikey: 311-10.0KLRTR-ND]  10.0K 5% 1/16W [Digikey: RMCF0402JT10K0TR-ND]  12.1K 1% 1/16W [Digikey: 311-22.0LRTR-ND]  100.0K 5% 1/16W    0603 - 0603 Surface Mount Package  0 Ohm 1/10 Watt 1% Resistor  15 Ohm 1/10 Watt 1% Resistor  33 Ohm 1/10 Watt 1% Resistor  49.9 Ohm 1/10 Watt 1% Resistor  100 Ohm 1/10 Watt 1% Resistor  150 Ohm 1/10 Watt 1% Resistor  240 Ohm 1/10 Watt 1% Resistor  390 Ohm 1/10 Watt 1% Resistor  560 Ohm 1/10 Watt 1% Resistor  680 Ohm 1/10 Watt 1% Resistor  750 Ohm 1/10 Watt 1% Resistor  1.0K Ohm 1/10 Watt 1% Resistor  1.5K Ohm 1/10 Watt 1% Resistor  2.0K Ohm 1/10 Watt 1% Resistor  2.2K Ohm 1/10 Watt 1% Resistor  3.3K Ohm 1/10 Watt 1% Resistor  4.7K Ohm 1/10 Watt 1% Resistor  10.0K Ohm 1/10 Watt 1% Resistor  12.0K Ohm 1/10 Watt 1% Resistor  12.1K Ohm 1/10 Watt 1% Resistor  20.0K Ohm 1/10 Watt 1% Resistor  33.0K Ohm 1/10 Watt 1% Resistor  100.0K Ohm 1/10 Watt 1% Resistor    0805 - 0805 Surface Mount Package  0 Ohm 1/8 Watt 1% Resistor  33 Ohm 1/8 Watt 1% Resistor  100 Ohm 1/8 Watt 1% Resistor  150 Ohm 1/8 Watt 1% Resistor  200 Ohm 1/8 Watt 1% Resistor  240 Ohm 1/8 Watt 1% Resistor  330 Ohm 1/8 Watt 1% Resistor  390 Ohm 1/8 Watt 1% Resistor  470 Ohm 1/8 Watt 1% Resistor  1.0K Ohm 1/8 Watt 1% Resistor  1.5K Ohm 1/8 Watt 1% Resistor  2.0K Ohm 1/8 Watt 1% Resistor  4.7K Ohm 1/8 Watt 1% Resistor  5.1K Ohm 1/8 Watt 1% Resistor  5.6K Ohm 1/8 Watt 1% Resistor  10.0K Ohm 1/8 Watt 1% Resistor  22.0K Ohm 1/8 Watt 1% Resistor  33.0K Ohm 1/8 Watt 1% Resistor  100K Ohm 1/8 Watt 1% Resistor    1206 - 1206 Surface Mount Package  2012 - 2010 Surface Mount Package  0.11 Ohm 1/2 Watt 1% Resistor - Digikey: RHM.11UCT-ND
footprint 0603-MINI
pins: 1, 2

## RESISTOR0805
designator R?, comment Resistors0402 - 0402 Surface Mount Package  22 Ohm 1% 1/16W [Digikey: 311-22.0LRTR-ND]  33 Ohm 5% 1/16W  1.0K 5% 1/16W  1.5K 5% 1/16W  2.0K 1% 1/16W  10.0K 1% 1/16W [Digikey: 311-10.0KLRTR-ND]  10.0K 5% 1/16W [Digikey: RMCF0402JT10K0TR-ND]  12.1K 1% 1/16W [Digikey: 311-22.0LRTR-ND]  100.0K 5% 1/16W    0603 - 0603 Surface Mount Package  0 Ohm 1/10 Watt 1% Resistor  15 Ohm 1/10 Watt 1% Resistor  33 Ohm 1/10 Watt 1% Resistor  49.9 Ohm 1/10 Watt 1% Resistor  100 Ohm 1/10 Watt 1% Resistor  150 Ohm 1/10 Watt 1% Resistor  240 Ohm 1/10 Watt 1% Resistor  390 Ohm 1/10 Watt 1% Resistor  560 Ohm 1/10 Watt 1% Resistor  680 Ohm 1/10 Watt 1% Resistor  750 Ohm 1/10 Watt 1% Resistor  1.0K Ohm 1/10 Watt 1% Resistor  1.5K Ohm 1/10 Watt 1% Resistor  2.0K Ohm 1/10 Watt 1% Resistor  2.2K Ohm 1/10 Watt 1% Resistor  3.3K Ohm 1/10 Watt 1% Resistor  4.7K Ohm 1/10 Watt 1% Resistor  10.0K Ohm 1/10 Watt 1% Resistor  12.0K Ohm 1/10 Watt 1% Resistor  12.1K Ohm 1/10 Watt 1% Resistor  20.0K Ohm 1/10 Watt 1% Resistor  33.0K Ohm 1/10 Watt 1% Resistor  100.0K Ohm 1/10 Watt 1% Resistor    0805 - 0805 Surface Mount Package  0 Ohm 1/8 Watt 1% Resistor  33 Ohm 1/8 Watt 1% Resistor  100 Ohm 1/8 Watt 1% Resistor  150 Ohm 1/8 Watt 1% Resistor  200 Ohm 1/8 Watt 1% Resistor  240 Ohm 1/8 Watt 1% Resistor  330 Ohm 1/8 Watt 1% Resistor  390 Ohm 1/8 Watt 1% Resistor  470 Ohm 1/8 Watt 1% Resistor  1.0K Ohm 1/8 Watt 1% Resistor  1.5K Ohm 1/8 Watt 1% Resistor  2.0K Ohm 1/8 Watt 1% Resistor  4.7K Ohm 1/8 Watt 1% Resistor  5.1K Ohm 1/8 Watt 1% Resistor  5.6K Ohm 1/8 Watt 1% Resistor  10.0K Ohm 1/8 Watt 1% Resistor  22.0K Ohm 1/8 Watt 1% Resistor  33.0K Ohm 1/8 Watt 1% Resistor  100K Ohm 1/8 Watt 1% Resistor    1206 - 1206 Surface Mount Package  2012 - 2010 Surface Mount Package  0.11 Ohm 1/2 Watt 1% Resistor - Digikey: RHM.11UCT-ND
footprint 0805
pins: 1, 2